# Altium integrated library microbuilder.IntLib: 530 symbols (part 1 of 7)
Pins are listed as number, name and electrical type; pins without a type are passive.

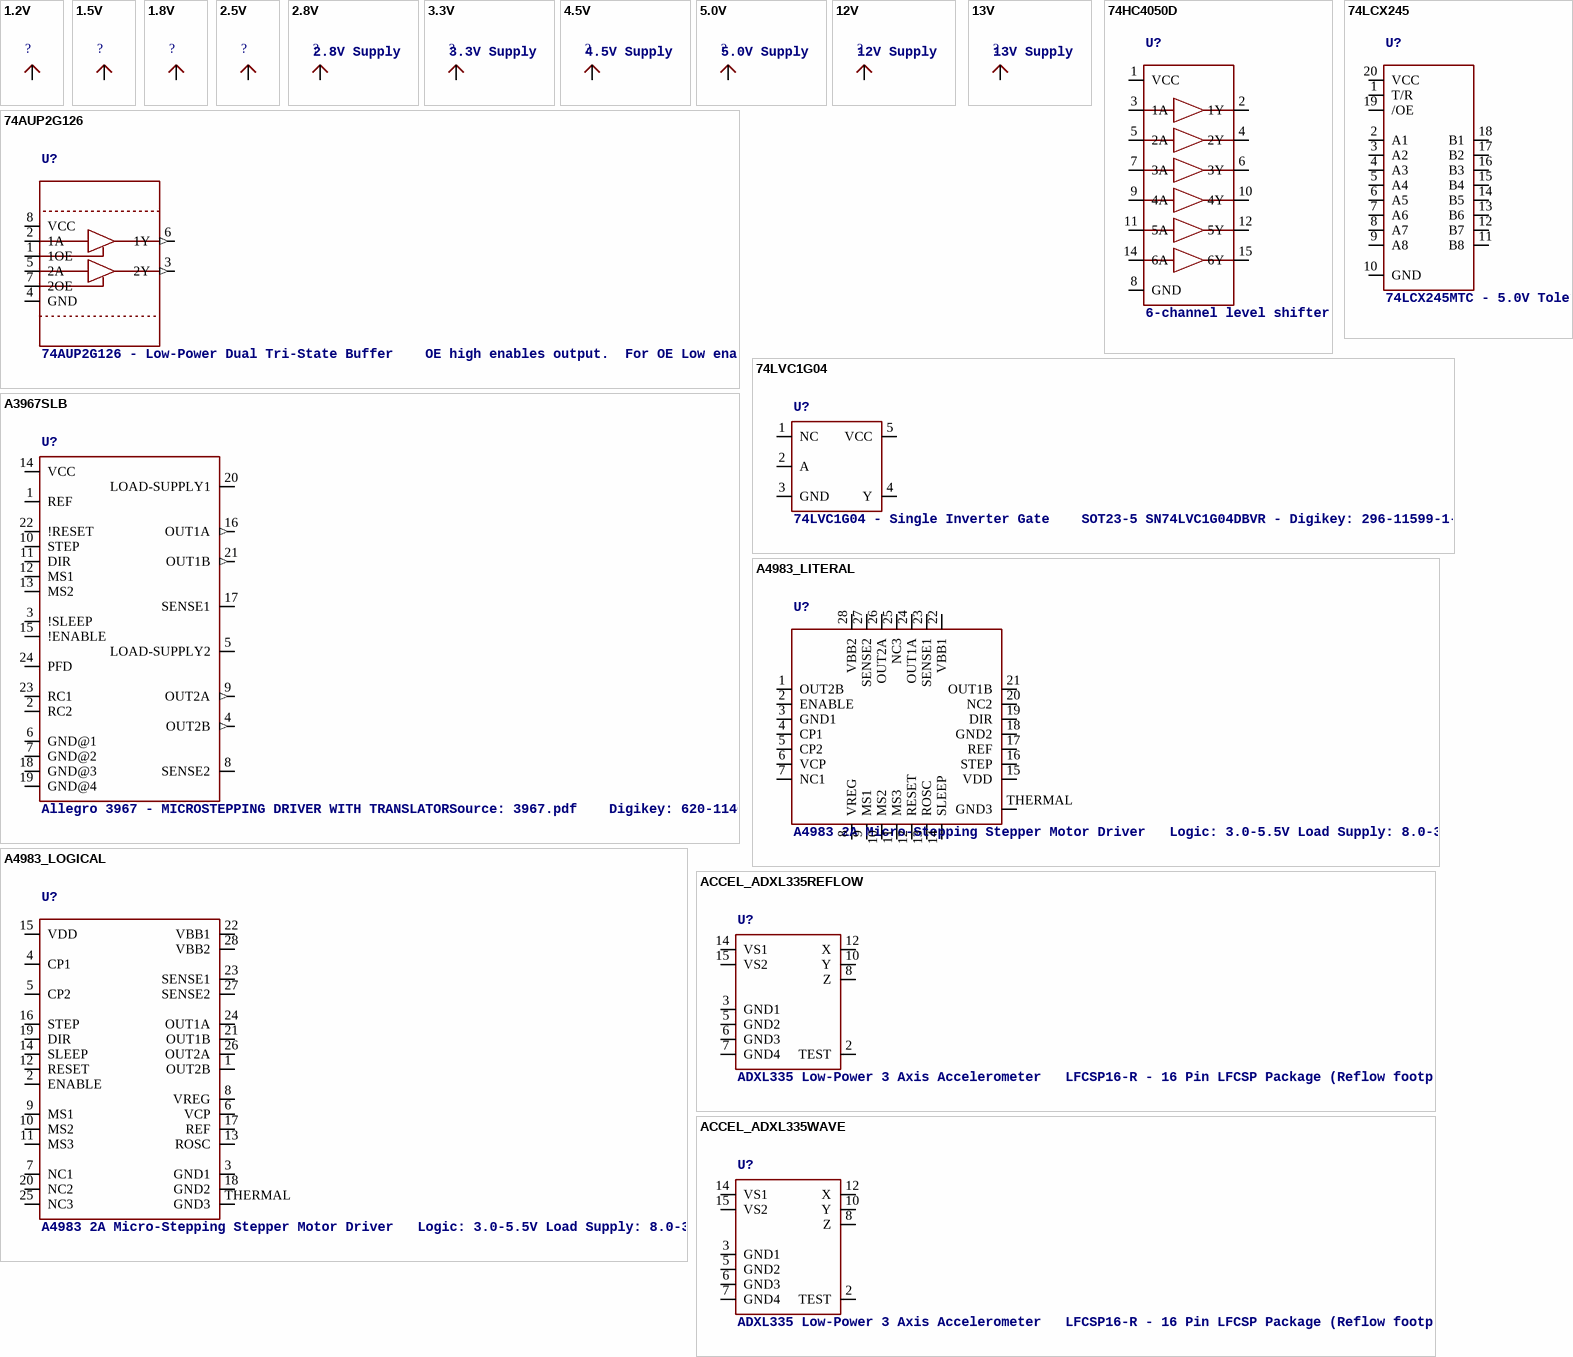
[diagram p0: symbols 1.2V to ACCEL_ADXL335WAVE]

## 1.2V
designator ?
pins: ?1 1.2V (oe)

## 1.5V
designator ?
pins: ?1 1.5V (oe)

## 1.8V
designator ?
pins: ?1 1.8V (oe)

## 2.5V
designator ?
pins: ?1 2.5V (oe)

## 2.8V
designator ?, comment 2.8V Supply
pins: ?1 2.8V (oe)

## 3.3V
designator ?, comment 3.3V Supply
pins: ?1 3.3V (oe)

## 4.5V
designator ?, comment 4.5V Supply
pins: ?1 4.5V (oe)

## 5.0V
designator ?, comment 5.0V Supply
pins: ?1 5.0V (oe)

## 12V
designator ?, comment 12V Supply
pins: ?1 12V (oe)

## 13V
designator ?, comment 13V Supply
pins: ?1 13V (oe)

## 74AUP2G126
designator U?, comment 74AUP2G126 - Low-Power Dual Tri-State Buffer    OE high enables output.  For OE Low enabled output use 74AUP2G125.    VCC: 0.8-3.6V  Temp: -40°C - 125°C       Package Variant: 8-VSSOP (SOT765-1)   Manuf. ID: 74AUP2G126DC,125   Digikey: 568-4987-1-ND   NOTE: Make sure to check the propogation delay to see if it's short enough for your timing since it's largely dependant on the line capacitance and supply voltage!
footprint VFSOP-8
pins: 1 1OE, 2 1A, 3 2Y (out), 4 GND (power), 5 2A, 6 1Y (out), 7 2OE, 8 VCC (power)

## 74HC4050D
designator U?, comment 6-channel level shifter    74HC4050D - 2V-6V Supply Digikey: 74HC4050D,653-ND  Mouser: 771-74HC4050D-T
footprint SOIC16
pins: 1 VCC, 2 1Y, 3 1A, 4 2Y, 5 2A, 6 3Y, 7 3A, 8 GND, 9 4A, 10 4Y, 11 5A, 12 5Y, 14 6A, 15 6Y

## 74LCX245
designator U?, comment 74LCX245MTC - 5.0V Tolerant Bi-Directional Buffer    Can be used to interface 5.0V logic to 2.5 or 3.3V devices Digikey: 74LCX245MTCXTR-ND  Mouser: 512-74LCX245MTCX
footprint TSSOP20
pins: 1 T/R, 2 A1, 3 A2, 4 A3, 5 A4, 6 A5, 7 A6, 8 A7, 9 A8, 10 GND, 11 B8, 12 B7, 13 B6, 14 B5, 15 B4, 16 B3, 17 B2, 18 B1, 19 /OE, 20 VCC

## 74LVC1G04
designator U?, comment 74LVC1G04 - Single Inverter Gate    SOT23-5 SN74LVC1G04DBVR - Digikey: 296-11599-1-ND
footprint SOT23-5
pins: 1 NC, 2 A, 3 GND (power), 4 Y, 5 VCC (power)

## A3967SLB
designator U?, comment Allegro 3967 - MICROSTEPPING DRIVER WITH TRANSLATORSource: 3967.pdf    Digikey: 620-1140-1-ND
footprint SOIC24WIDE
pins: 1 REF, 2 RC2, 3 !SLEEP, 4 OUT2B (out), 5 LOAD-SUPPLY2, 6 GND@1 (power), 7 GND@2 (power), 8 SENSE2, 9 OUT2A (out), 10 STEP, 11 DIR, 12 MS1, 13 MS2, 14 VCC (power), 15 !ENABLE, 16 OUT1A (out), 17 SENSE1, 18 GND@3 (power), 19 GND@4 (power), 20 LOAD-SUPPLY1, 21 OUT1B (out), 22 !RESET, 23 RC1, 24 PFD

## A4983_LITERAL
designator U?, comment A4983 2A Micro-Stepping Stepper Motor Driver   Logic: 3.0-5.5V Load Supply: 8.0-35V
footprint QFN28_5MM
pins: 1 OUT2B, 2 ENABLE, 3 GND1 (power), 4 CP1, 5 CP2, 6 VCP, 7 NC1, 8 VREG, 9 MS1, 10 MS2, 11 MS3, 12 RESET, 13 ROSC, 14 SLEEP, 15 VDD (power), 16 STEP, 17 REF, 18 GND2 (power), 19 DIR, 20 NC2, 21 OUT1B, 22 VBB1, 23 SENSE1, 24 OUT1A, 25 NC3, 26 OUT2A, 27 SENSE2, 28 VBB2, THERMAL GND3 (power)

## A4983_LOGICAL
designator U?, comment A4983 2A Micro-Stepping Stepper Motor Driver   Logic: 3.0-5.5V Load Supply: 8.0-35V
footprint QFN28_5MM
pins: 1 OUT2B, 2 ENABLE, 3 GND1 (power), 4 CP1, 5 CP2, 6 VCP, 7 NC1, 8 VREG, 9 MS1, 10 MS2, 11 MS3, 12 RESET, 13 ROSC, 14 SLEEP, 15 VDD (power), 16 STEP, 17 REF, 18 GND2 (power), 19 DIR, 20 NC2, 21 OUT1B, 22 VBB1, 23 SENSE1, 24 OUT1A, 25 NC3, 26 OUT2A, 27 SENSE2, 28 VBB2, THERMAL GND3 (power)

## ACCEL_ADXL335REFLOW
designator U?, comment ADXL335 Low-Power 3 Axis Accelerometer   LFCSP16-R - 16 Pin LFCSP Package (Reflow footprint) LFSCP16-W - 16 Pin LFCSP Package (Wave footprint with extended pads for hand soldering)    Digikey: ADXL335BCPZ-RL7CT-ND
footprint LFCSP16-R
pins: 2 TEST, 3 GND1, 5 GND2, 6 GND3, 7 GND4, 8 Z, 10 Y, 12 X, 14 VS1, 15 VS2

## ACCEL_ADXL335WAVE
designator U?, comment ADXL335 Low-Power 3 Axis Accelerometer   LFCSP16-R - 16 Pin LFCSP Package (Reflow footprint) LFSCP16-W - 16 Pin LFCSP Package (Wave footprint with extended pads for hand soldering)    Digikey: ADXL335BCPZ-RL7CT-ND
footprint LFCSP16-W
pins: 2 TEST, 3 GND1, 5 GND2, 6 GND3, 7 GND4, 8 Z, 10 Y, 12 X, 14 VS1, 15 VS2

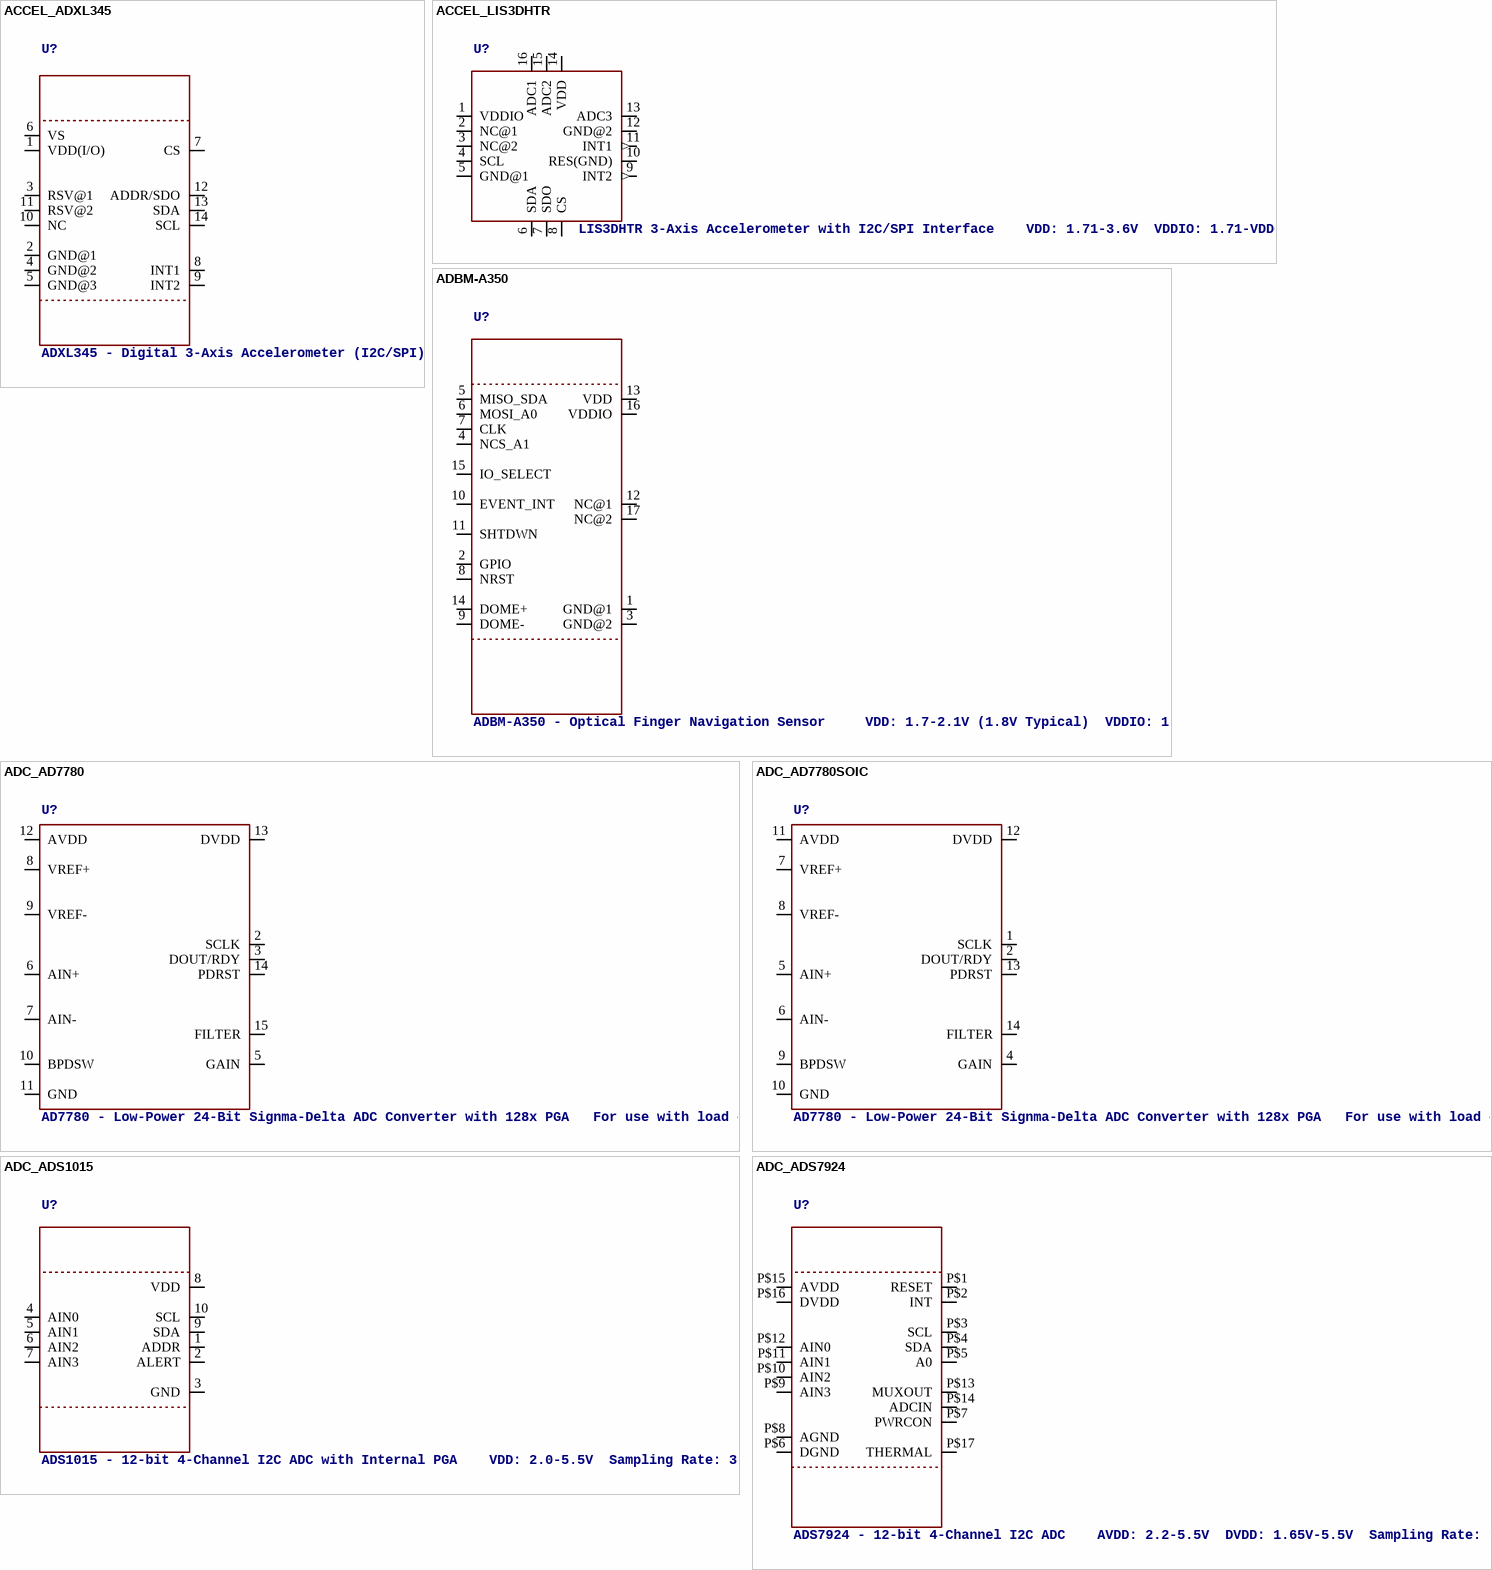
[diagram p1: symbols ACCEL_ADXL345 to ADC_ADS7924]

## ACCEL_ADXL345
designator U?, comment ADXL345 - Digital 3-Axis Accelerometer (I2C/SPI)
footprint LGA14
pins: 1 VDD(I/O), 2 GND@1, 3 RSV@1, 4 GND@2, 5 GND@3, 6 VS, 7 CS, 8 INT1, 9 INT2, 10 NC, 11 RSV@2, 12 ADDR/SDO, 13 SDA, 14 SCL

## ACCEL_LIS3DHTR
designator U?, comment LIS3DHTR 3-Axis Accelerometer with I2C/SPI Interface    VDD: 1.71-3.6V  VDDIO: 1.71-VDD+0.1V  Scale: +/-2g, 4g, 8g, 16g with 16--bit data output  Temp:: -40°C - 85°C       Mouser: 511-LIS3DHTR Digikey: 497-10613-1-ND
footprint LGA16_3X3MM
pins: 1 VDDIO (oe), 2 NC@1, 3 NC@2, 4 SCL, 5 GND@1 (oe), 6 SDA, 7 SDO, 8 CS, 9 INT2 (out), 10 RES(GND), 11 INT1 (out), 12 GND@2 (oe), 13 ADC3, 14 VDD (oe), 15 ADC2, 16 ADC1

## ADBM-A350
designator U?, comment ADBM-A350 - Optical Finger Navigation Sensor     VDD: 1.7-2.1V (1.8V Typical)  VDDIO: 1.65-3.6V (1.8V or 2.8V Typical)  Operating Temp: -20-70°C       FPC Connector: Hirose FH26-17S-0.3SHW(05)
footprint ADBM-A350
pins: 1 GND@1 (power), 2 GPIO, 3 GND@2 (power), 4 NCS_A1, 5 MISO_SDA, 6 MOSI_A0, 7 CLK, 8 NRST, 9 DOME-, 10 EVENT_INT, 11 SHTDWN, 12 NC@1, 13 VDD (power), 14 DOME+, 15 IO_SELECT, 16 VDDIO (power), 17 NC@2

## ADC_AD7780
designator U?, comment AD7780 - Low-Power 24-Bit Signma-Delta ADC Converter with 128x PGA   For use with load cells   TSSOP16 = 5.0x4.4mm package - Digikey: AD7780BRUZ-ND   SOIC14 = 8.70x3.9mm package - Digikey: AD7780BRZ-ND
footprint TSSOP16
pins: 2 SCLK, 3 DOUT/RDY, 5 GAIN, 6 AIN+, 7 AIN-, 8 VREF+, 9 VREF-, 10 BPDSW, 11 GND, 12 AVDD, 13 DVDD, 14 PDRST, 15 FILTER

## ADC_AD7780SOIC
designator U?, comment AD7780 - Low-Power 24-Bit Signma-Delta ADC Converter with 128x PGA   For use with load cells   TSSOP16 = 5.0x4.4mm package - Digikey: AD7780BRUZ-ND   SOIC14 = 8.70x3.9mm package - Digikey: AD7780BRZ-ND
footprint SOIC14
pins: 1 SCLK, 2 DOUT/RDY, 4 GAIN, 5 AIN+, 6 AIN-, 7 VREF+, 8 VREF-, 9 BPDSW, 10 GND, 11 AVDD, 12 DVDD, 13 PDRST, 14 FILTER

## ADC_ADS1015
designator U?, comment ADS1015 - 12-bit 4-Channel I2C ADC with Internal PGA    VDD: 2.0-5.5V  Sampling Rate: 3.3ksps  Gain Settings: 2/3, 1, 2, 4, 8, 16  I2C Address: ADDR low = 1001000x, ADDR high = 1001001x       Internal Comparator   The ADS1015 includes an internal comparator that can be set to output a high-level on ALERT when the conversion results exceeeds a pre-defined upper level, and will deassert itself when the level falls below a pre-defined lower threshold level. It can also be set to windowed mode where the ALERT pin will be asserted if the data exceeds the upper threshold or falls below the lower threshold.
footprint MSOP10
pins: 1 ADDR, 2 ALERT, 3 GND, 4 AIN0, 5 AIN1, 6 AIN2, 7 AIN3, 8 VDD, 9 SDA, 10 SCL

## ADC_ADS7924
designator U?, comment ADS7924 - 12-bit 4-Channel I2C ADC    AVDD: 2.2-5.5V  DVDD: 1.65V-5.5V  Sampling Rate: 100ksps  I2C Address: ADDR low = 1001000x, ADDR DVDD = 1001001x       Digital Threshold Comparators   The ADS794 is a relatively low-power device and can be useful in certain low-power scenarios since it can be configured to regularly check the voltage on the analog input pins, and throw an interrupt or pull an MCU out of reset when a specific condition is met.  Each of the four inputs has it's own programmable threshold level.  It could be used to monitor the input level of solar or other ambient energy sources, and when the level is sufficiently high, wakeup the MCU to perform read some sensor data, etc., or wait until a supercap is charged to a sufficiently high level before waking the MCU.
footprint WQFN16
pins: P$1 RESET, P$2 INT, P$3 SCL, P$4 SDA, P$5 A0, P$6 DGND, P$7 PWRCON, P$8 AGND, P$9 AIN3, P$10 AIN2, P$11 AIN1, P$12 AIN0, P$13 MUXOUT, P$14 ADCIN, P$15 AVDD, P$16 DVDD, P$17 THERMAL

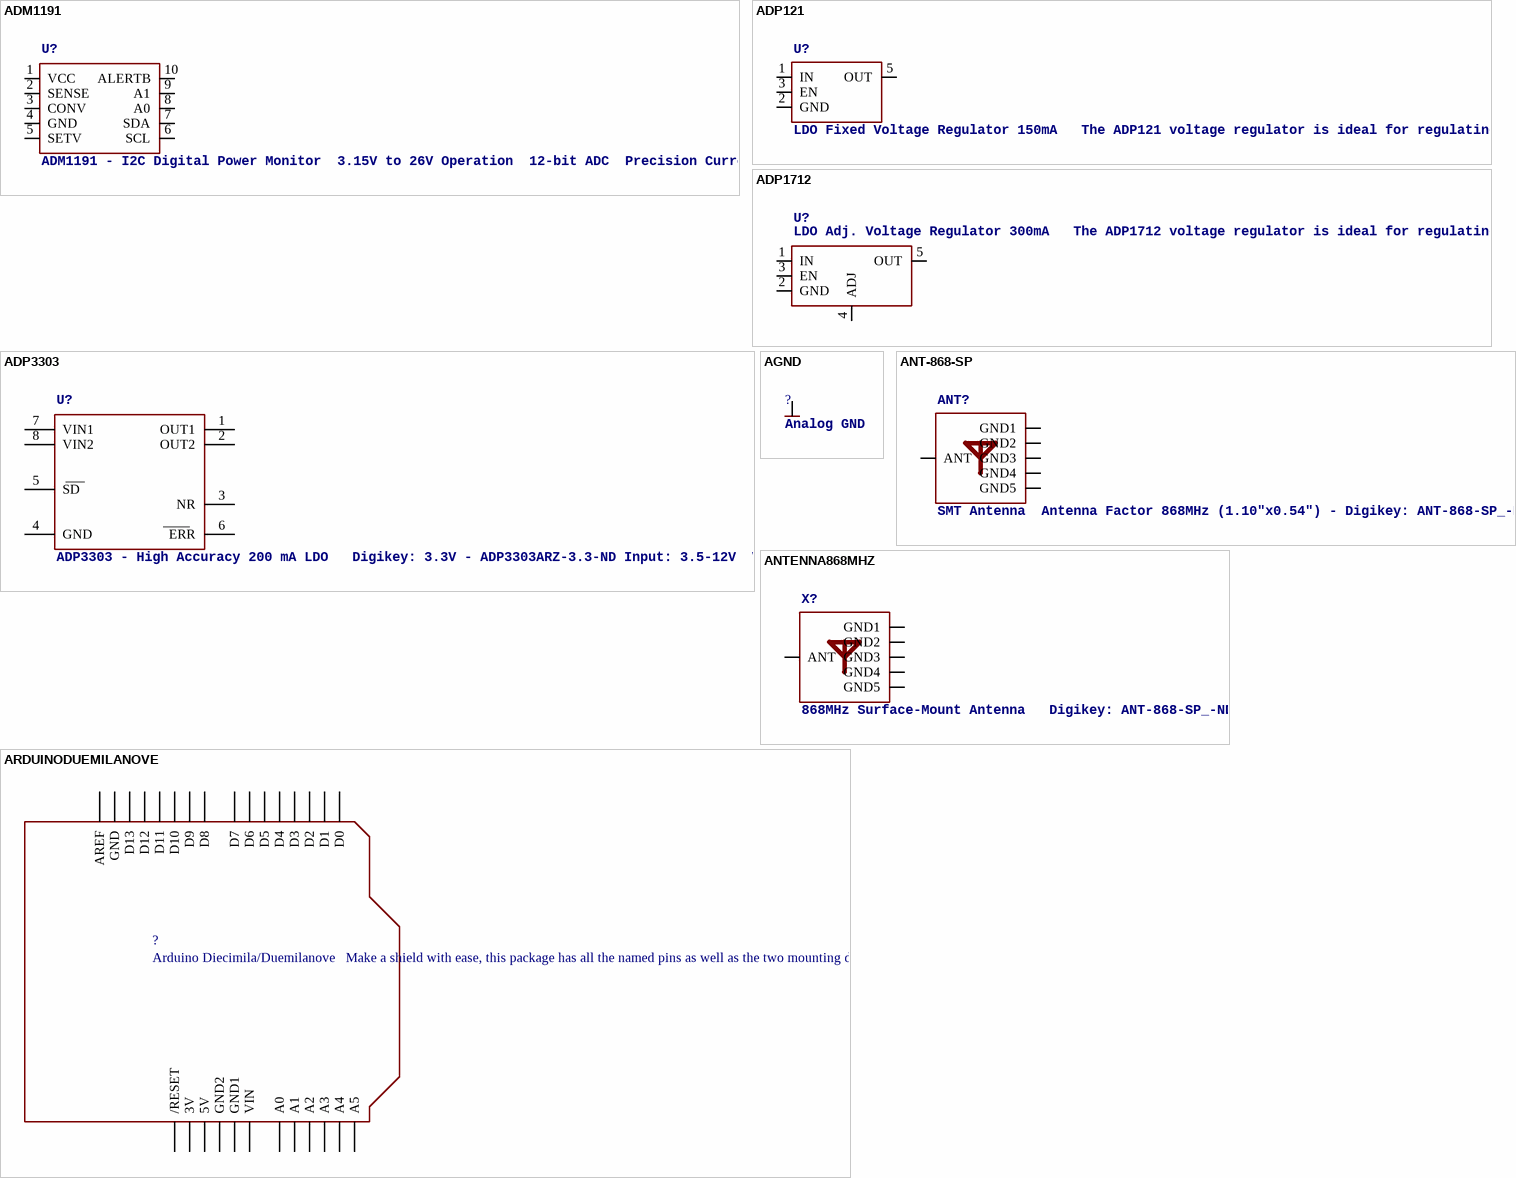
[diagram p2: symbols ADM1191 to ARDUINODUEMILANOVE]

## ADM1191
designator U?, comment ADM1191 - I2C Digital Power Monitor  3.15V to 26V Operation  12-bit ADC  Precision Current Sense Amplifier  Precision Voltage Input    Digikey: ADM1191-2ARMZ-R7TR-ND
footprint MSOP10
pins: 1 VCC, 2 SENSE, 3 CONV, 4 GND, 5 SETV, 6 SCL, 7 SDA, 8 A0, 9 A1, 10 ALERTB

## ADP121
designator U?, comment LDO Fixed Voltage Regulator 150mA   The ADP121 voltage regulator is ideal for regulating battery or solar power due to it's very low foreward voltage drop (maximum 90mV at 150mA).Forward Voltage Dropout: 90mV at 150mA Input Voltage Range: 2.3V-5.5V Output Voltage Range: 1.2V-3.3V (depending on model)  Digikey: 3.3V - ADP121-AUJZ33R7CT-ND  Digikey: 3.0V - ADP121-AUJZ30R7CT-ND
footprint SOT23-5
pins: 1 IN, 2 GND, 3 EN, 5 OUT

## ADP1712
designator U?, comment LDO Adj. Voltage Regulator 300mA   The ADP1712 voltage regulator is ideal for regulating battery or solar power due to it's very low foreward voltage drop (maximum 170mV at 300mA).Forward Voltage Dropout: 170mV at 300mA Input Voltage Range: 2.5V-5.5V Output Voltage Range: 0.8V-5.0V  1.2V - Digikey: ADP1712AUJZ-1.2-R7CT-ND  1.8V - Digikey: ADP1712AUJZ-1.8-R7CT-ND  3.3V - Digikey: ADP1712AUJZ-3.3-R7CT-ND
footprint SOT23-5
pins: 1 IN, 2 GND, 3 EN, 4 ADJ, 5 OUT

## ADP3303
designator U?, comment ADP3303 - High Accuracy 200 mA LDO   Digikey: 3.3V - ADP3303ARZ-3.3-ND Input: 3.5-12V  Vf: 180mV @ 200mA  Temp: -20°C-85°C       Digikey: 5.0V - ADP3303ARZ-5-ND
footprint SOIC8_150MIL
pins: 1 OUT1, 2 OUT2, 3 NR, 4 GND, 5 SD, 6 ERR, 7 VIN1, 8 VIN2

## AGND
designator ?, comment Analog GND
pins: ?1 AGND (oe)

## ANT-868-SP
designator ANT?, comment SMT Antenna  Antenna Factor 868MHz (1.10"x0.54") - Digikey: ANT-868-SP_-ND
footprint ANT_868MHZ_SPLATCH
pins: GND1 (power), GND2 (power), GND3 (power), GND4 (power), GND5 (power), MICROSTRIP ANT

## ANTENNA868MHZ
designator X?, comment 868MHz Surface-Mount Antenna   Digikey: ANT-868-SP_-ND
footprint 869MHZANTENNA
pins: P$1 ANT, P$2 GND1 (power), P$3 GND2 (power), P$4 GND3 (power), P$5 GND4 (power), P$6 GND5 (power)

## ARDUINODUEMILANOVE
designator ?, comment Arduino Diecimila/Duemilanove   Make a shield with ease, this package has all the named pins as well as the two mounting drill holes and an outline of the USB and DC power connector. The outline is on the DIMENSION layer, so if your board house uses it they will cut the outline to match.    http://www.ladyada.net/library/pcb/eaglelibrary.html
footprint ARDUINO
pins: 3V (power), 5V (power), A0, A1, A2, A3, A4, A5, AREF, D0, D1, D2, D3, D4, D5, D6, D7, D8, D9, D10, D11, D12, D13, GND (power), GND1 (power), GND2 (power), RESET /RESET, VIN (power)

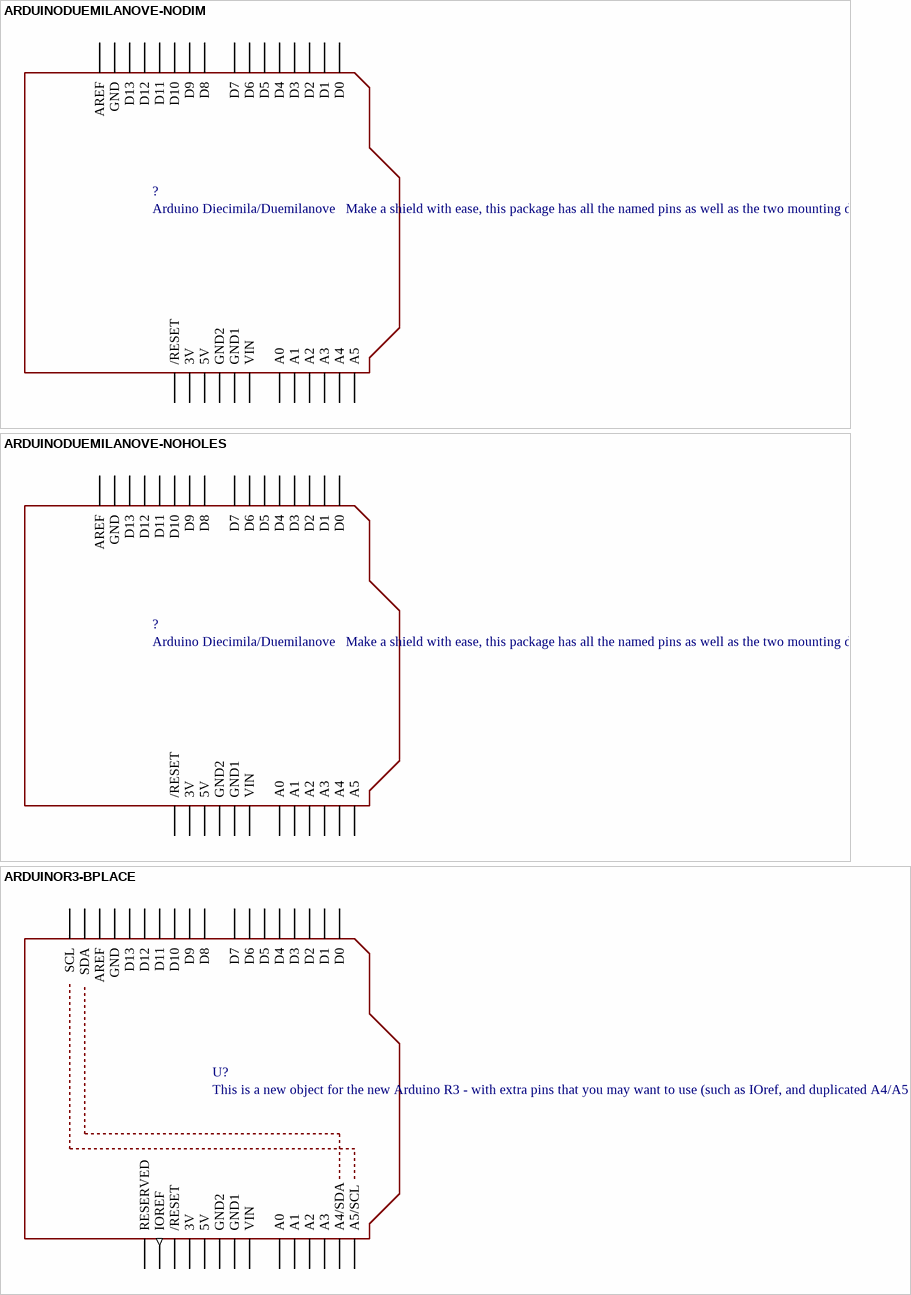
[diagram p3: symbols ARDUINODUEMILANOVE-NODIM to ARDUINOR3-BPLACE]

## ARDUINODUEMILANOVE-NODIM
designator ?, comment Arduino Diecimila/Duemilanove   Make a shield with ease, this package has all the named pins as well as the two mounting drill holes and an outline of the USB and DC power connector. The outline is on the DIMENSION layer, so if your board house uses it they will cut the outline to match.    http://www.ladyada.net/library/pcb/eaglelibrary.html
footprint ARDUINO-NODIM
pins: 3V (power), 5V (power), A0, A1, A2, A3, A4, A5, AREF, D0, D1, D2, D3, D4, D5, D6, D7, D8, D9, D10, D11, D12, D13, GND (power), GND1 (power), GND2 (power), RESET /RESET, VIN (power)

## ARDUINODUEMILANOVE-NOHOLES
designator ?, comment Arduino Diecimila/Duemilanove   Make a shield with ease, this package has all the named pins as well as the two mounting drill holes and an outline of the USB and DC power connector. The outline is on the DIMENSION layer, so if your board house uses it they will cut the outline to match.    http://www.ladyada.net/library/pcb/eaglelibrary.html
footprint ARDUINO-NOHOLE
pins: 3V (power), 5V (power), A0, A1, A2, A3, A4, A5, AREF, D0, D1, D2, D3, D4, D5, D6, D7, D8, D9, D10, D11, D12, D13, GND (power), GND1 (power), GND2 (power), RESET /RESET, VIN (power)

## ARDUINOR3-BPLACE
designator U?, comment This is a new object for the new Arduino R3 - with extra pins that you may want to use (such as IOref, and duplicated A4/A5
footprint ARDUINOR3-BPLACE
pins: 3V (power), 5V (power), A0, A1, A2, A3, A4 A4/SDA, A5 A5/SCL, AREF, D0, D1, D2, D3, D4, D5, D6, D7, D8, D9, D10, D11, D12, D13, GND (power), GND1 (power), GND2 (power), IOREF (out), RESERVED, RESET /RESET, SCL, SDA, VIN (power)

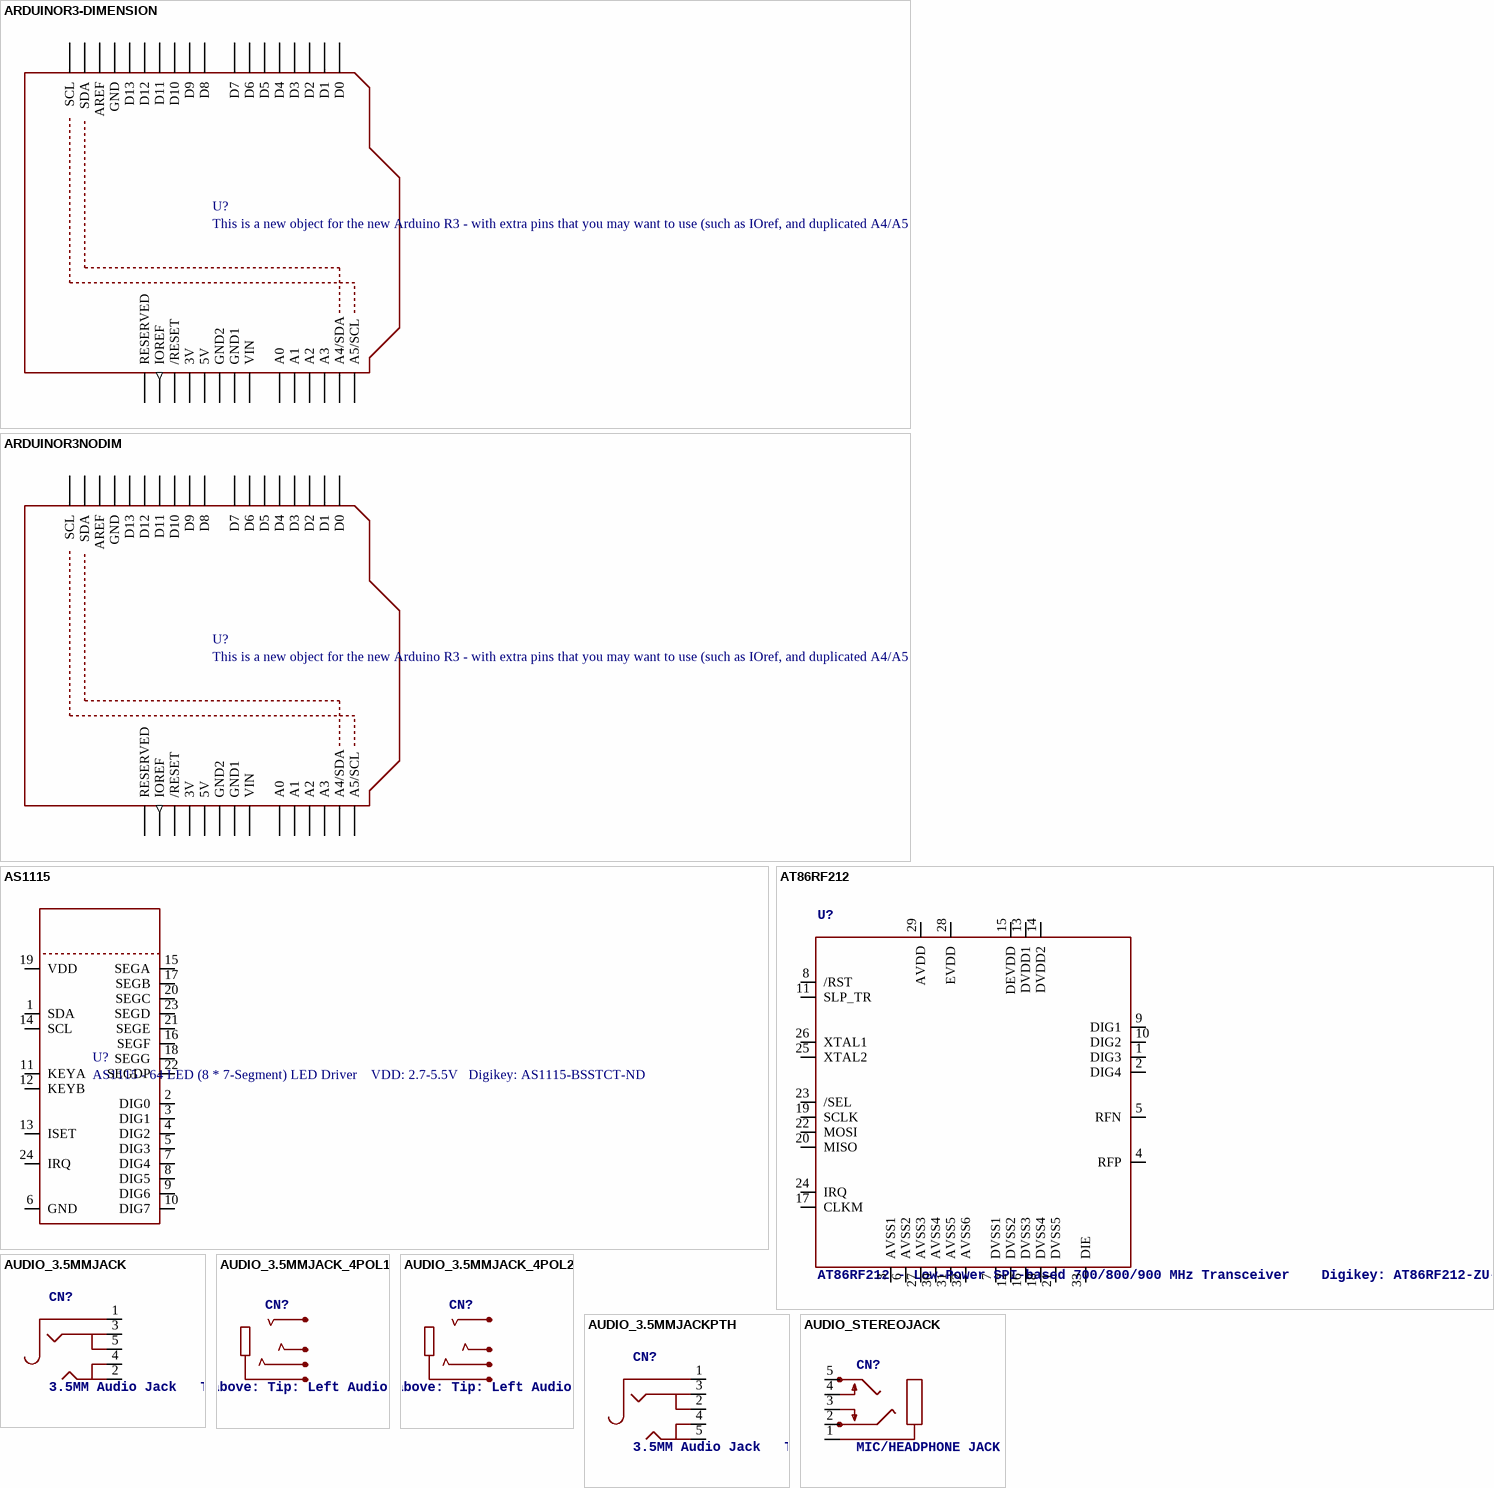
[diagram p4: symbols ARDUINOR3-DIMENSION to AUDIO_STEREOJACK]

## ARDUINOR3-DIMENSION
designator U?, comment This is a new object for the new Arduino R3 - with extra pins that you may want to use (such as IOref, and duplicated A4/A5
footprint ARDUINOR3
pins: 3V (power), 5V (power), A0, A1, A2, A3, A4 A4/SDA, A5 A5/SCL, AREF, D0, D1, D2, D3, D4, D5, D6, D7, D8, D9, D10, D11, D12, D13, GND (power), GND1 (power), GND2 (power), IOREF (out), RESERVED, RESET /RESET, SCL, SDA, VIN (power)

## ARDUINOR3NODIM
designator U?, comment This is a new object for the new Arduino R3 - with extra pins that you may want to use (such as IOref, and duplicated A4/A5
footprint ARDUINOR3-NODIM
pins: 3V (power), 5V (power), A0, A1, A2, A3, A4 A4/SDA, A5 A5/SCL, AREF, D0, D1, D2, D3, D4, D5, D6, D7, D8, D9, D10, D11, D12, D13, GND (power), GND1 (power), GND2 (power), IOREF (out), RESERVED, RESET /RESET, SCL, SDA, VIN (power)

## AS1115
designator U?, comment AS1115 - 64 LED (8 * 7-Segment) LED Driver    VDD: 2.7-5.5V   Digikey: AS1115-BSSTCT-ND
footprint QSOP24_0.635MM
pins: 1 SDA, 2 DIG0, 3 DIG1, 4 DIG2, 5 DIG3, 6 GND, 7 DIG4, 8 DIG5, 9 DIG6, 10 DIG7, 11 KEYA, 12 KEYB, 13 ISET, 14 SCL, 15 SEGA, 16 SEGF, 17 SEGB, 18 SEGG, 19 VDD, 20 SEGC, 21 SEGE, 22 SEGDP, 23 SEGD, 24 IRQ

## AT86RF212
designator U?, comment AT86RF212 - Low-Power SPI-based 700/800/900 MHz Transceiver    Digikey: AT86RF212-ZU-ND
PARTNO: AT86RF212-ZU
footprint 32QN2
pins: 1 DIG3, 2 DIG4, 3 AVSS1, 4 RFP, 5 RFN, 6 AVSS2, 7 DVSS1, 8 /RST, 9 DIG1, 10 DIG2, 11 SLP_TR, 12 DVSS2, 13 DVDD1, 14 DVDD2, 15 DEVDD, 16 DVSS3, 17 CLKM, 18 DVSS4, 19 SCLK, 20 MISO, 21 DVSS5, 22 MOSI, 23 /SEL, 24 IRQ, 25 XTAL2, 26 XTAL1, 27 AVSS3, 28 EVDD, 29 AVDD, 30 AVSS4, 31 AVSS5, 32 AVSS6, 33 DIE

## AUDIO_3.5MMJACK
designator CN?, comment 3.5MM Audio Jack   These are normally connected as follows, from left-to right on the schematic symbol above: Tip: Left Audio  Inner Ring: Right Audio  Shell: Common/GND
footprint 4UCONN_19269
pins: 1 P$1, 2 P$5, 3 P$2, 4 P$4, 5 P$3

## AUDIO_3.5MMJACK_4POL1
designator CN?, comment Footprint courtesy Morten Hjerde (Riftlabs.com)   These are normally connected as follows (4-pin 3.5mm 'TRRS'), from left-to right on the schematic symbol above: Tip: Left Audio  Outermost Ring: Right Audio  Innermost Ring: Common/GND  Shell: Mic+
footprint 4UCONN_19621_SPARK
pins: 1-GND GND, 2-TIP TIP, 3-OUTER_SLEEVE SLEEVE_OUTER, 4-INNER_SLEEVE SLEEVE_INNER

## AUDIO_3.5MMJACK_4POL2
designator CN?, comment Footprint courtesy Morten Hjerde (Riftlabs.com)   These are normally connected as follows (4-pin 3.5mm 'TRRS'), from left-to right on the schematic symbol above: Tip: Left Audio  Outermost Ring: Right Audio  Innermost Ring: Common/GND  Shell: Mic+
footprint 4UCONN_19621
pins: 1-GND GND, 2-TIP TIP, 3-OUTER_SLEEVE SLEEVE_OUTER, 4-INNER_SLEEVE SLEEVE_INNER

## AUDIO_3.5MMJACKPTH
designator CN?, comment 3.5MM Audio Jack   These are normally connected as follows, from left-to right on the schematic symbol above: Tip: Left Audio  Inner Ring: Right Audio  Shell: Common/GND
footprint 4UCONN_05550
pins: 1 P$1, 2 P$3, 3 P$2, 4 P$4, 5 P$5

## AUDIO_STEREOJACK
designator CN?, comment MIC/HEADPHONE JACK   Stereo jack with two switches. Kycon STX3100, CUI SJ1-3555NG and/or 4UCon 05544    Digikey: CP1-3555NG-ND   Shamelessly taken from the Adafruit Eagle library (public domain) ... thanks!   These are normally connected as follows, from right-to-left on the schematic symbol above: Tip: Left Audio  Inner Ring: Right Audio  Shell: Common/GND
footprint STX3100
pins: 1, 2, 3, 4, 5

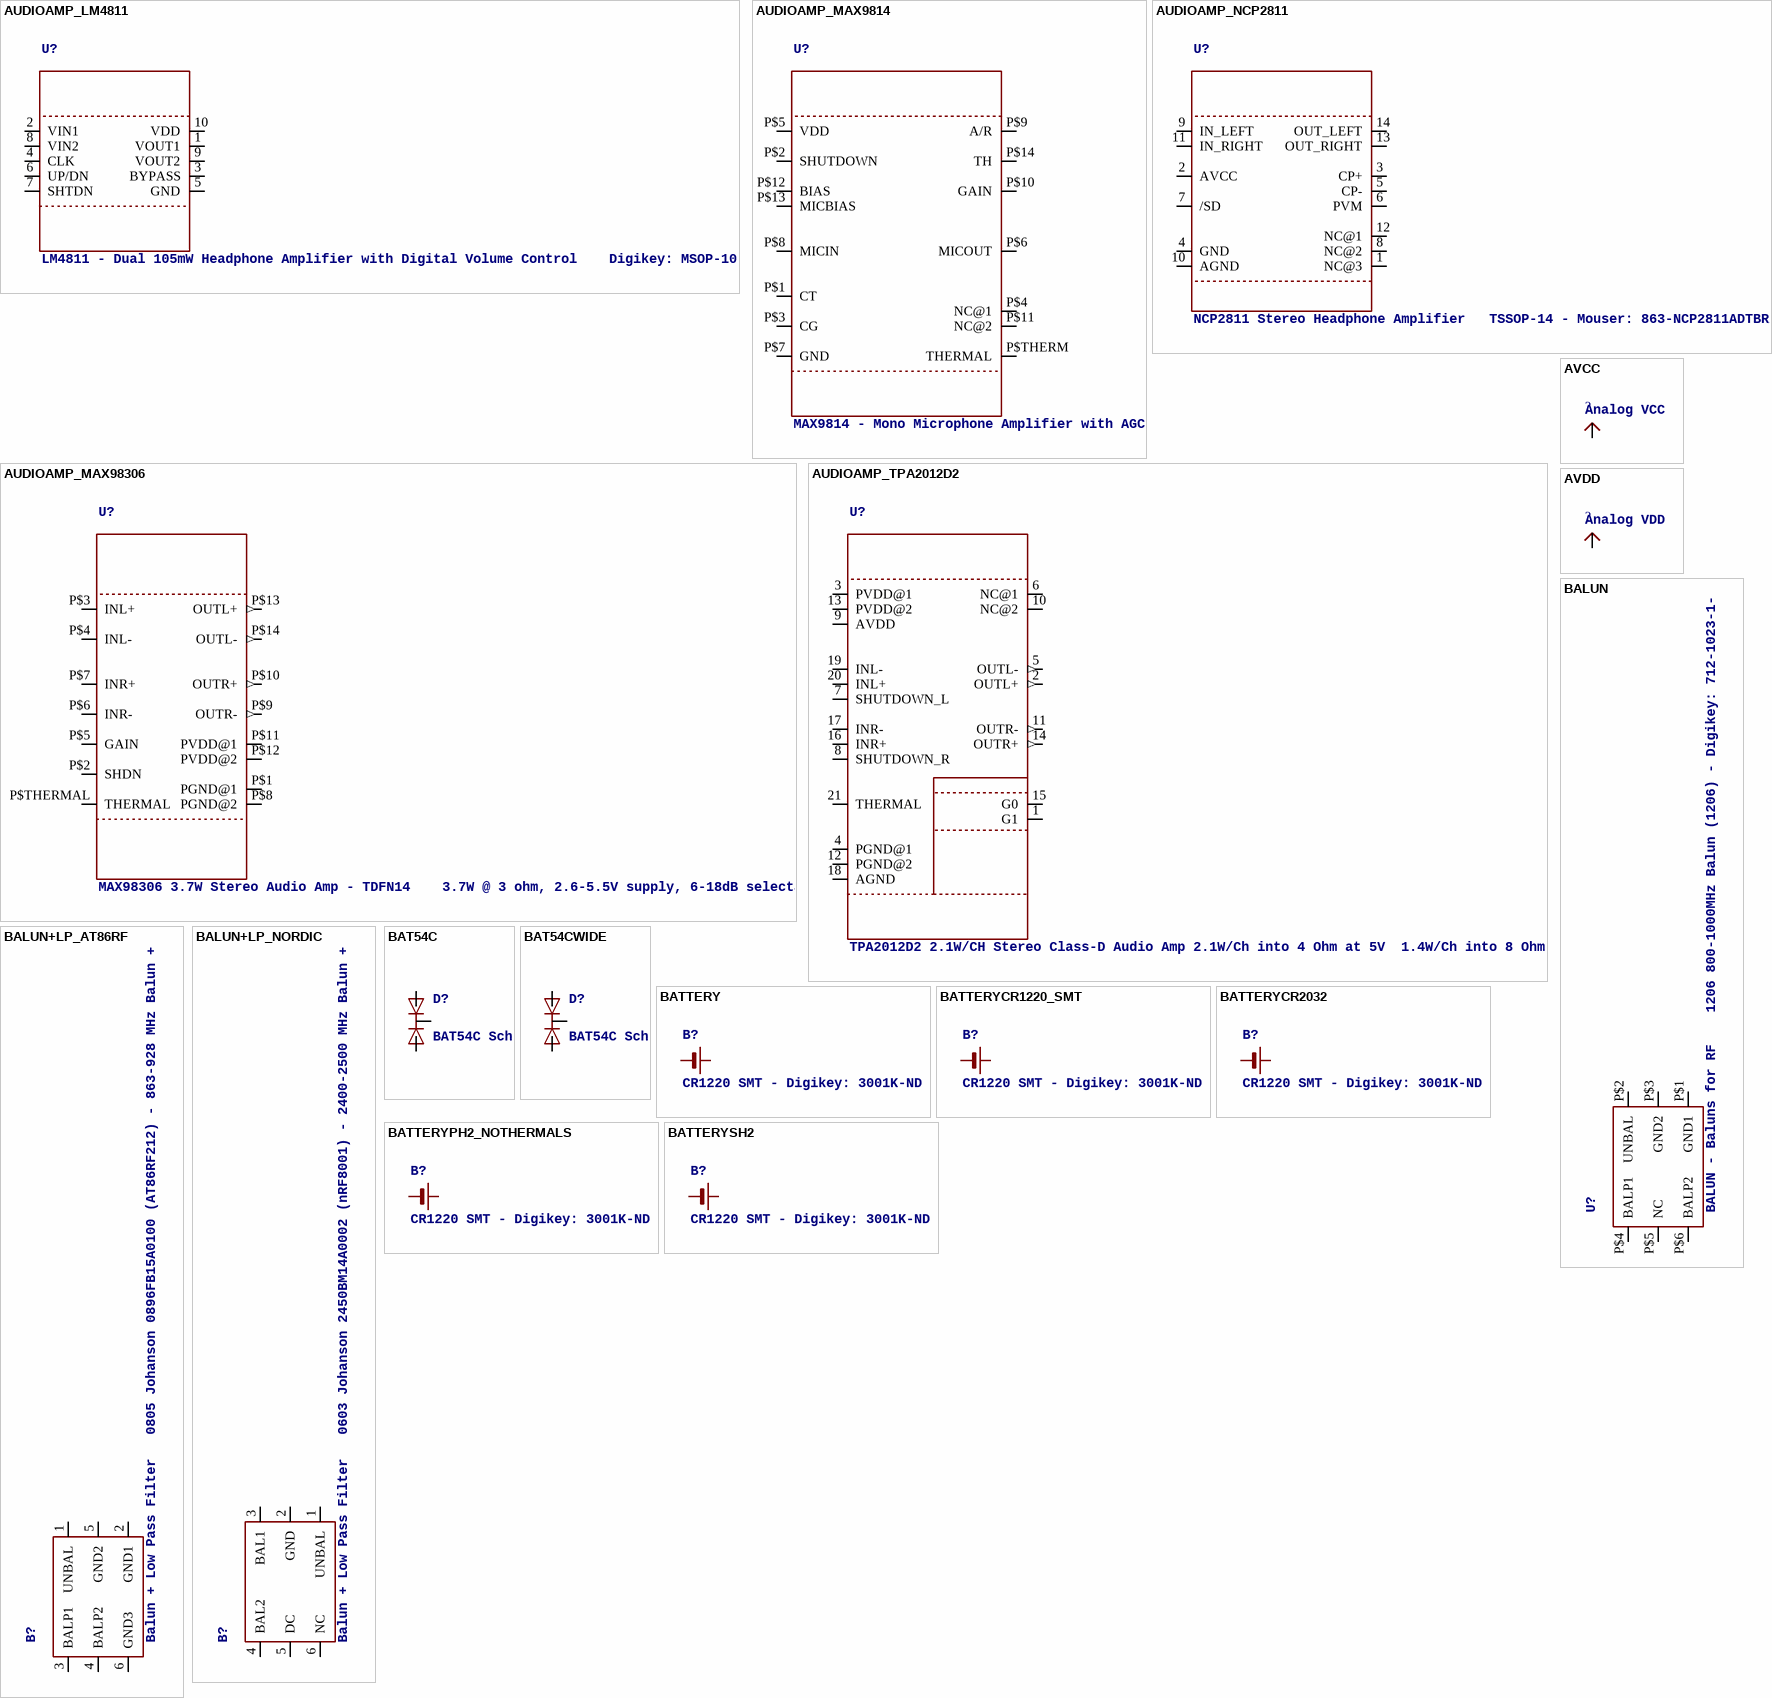
[diagram p5: symbols AUDIOAMP_LM4811 to BATTERYSH2]

## AUDIOAMP_LM4811
designator U?, comment LM4811 - Dual 105mW Headphone Amplifier with Digital Volume Control    Digikey: MSOP-10 - LM4811MMCT-ND
footprint MSOP10
pins: 1 VOUT1, 2 VIN1, 3 BYPASS, 4 CLK, 5 GND, 6 UP/DN, 7 SHTDN, 8 VIN2, 9 VOUT2, 10 VDD

## AUDIOAMP_MAX9814
designator U?, comment MAX9814 - Mono Microphone Amplifier with AGC
footprint WFDFN-14
pins: P$1 CT, P$2 SHUTDOWN, P$3 CG, P$4 NC@1, P$5 VDD, P$6 MICOUT, P$7 GND, P$8 MICIN, P$9 A/R, P$10 GAIN, P$11 NC@2, P$12 BIAS, P$13 MICBIAS, P$14 TH, P$THERM THERMAL

## AUDIOAMP_MAX98306
designator U?, comment MAX98306 3.7W Stereo Audio Amp - TDFN14    3.7W @ 3 ohm, 2.6-5.5V supply, 6-18dB selectable gain
footprint TDFN14_3X3MM
pins: P$1 PGND@1 (power), P$2 SHDN, P$3 INL+, P$4 INL-, P$5 GAIN, P$6 INR-, P$7 INR+, P$8 PGND@2 (power), P$9 OUTR- (out), P$10 OUTR+ (out), P$11 PVDD@1 (power), P$12 PVDD@2 (power), P$13 OUTL+ (out), P$14 OUTL- (out), P$THERMAL THERMAL (power)

## AUDIOAMP_NCP2811
designator U?, comment NCP2811 Stereo Headphone Amplifier   TSSOP-14 - Mouser: 863-NCP2811ADTBR2G
footprint TSSOP14
pins: 1 NC@3, 2 AVCC, 3 CP+, 4 GND, 5 CP-, 6 PVM, 7 /SD, 8 NC@2, 9 IN_LEFT, 10 AGND, 11 IN_RIGHT, 12 NC@1, 13 OUT_RIGHT, 14 OUT_LEFT

## AUDIOAMP_TPA2012D2
designator U?, comment TPA2012D2 2.1W/CH Stereo Class-D Audio Amp 2.1W/Ch into 4 Ohm at 5V  1.4W/Ch into 8 Ohm at 5V  720mW/Ch into 8 ohm at 3.6V  Selectable Gain: 6, 12, 18 or 24 dB  Power Supply (PVDD and AVDD): 2.5-5.5V  Operating Temperature: -40 to 85°C       Digikey (QFN20): 296-17692-1-ND
footprint WQFN20
pins: 1 G1, 2 OUTL+ (out), 3 PVDD@1 (power), 4 PGND@1 (power), 5 OUTL- (out), 6 NC@1, 7 SHUTDOWN_L, 8 SHUTDOWN_R, 9 AVDD (power), 10 NC@2, 11 OUTR- (out), 12 PGND@2 (power), 13 PVDD@2 (power), 14 OUTR+ (out), 15 G0, 16 INR+, 17 INR-, 18 AGND (power), 19 INL-, 20 INL+, 21 THERMAL

## AVCC
designator ?, comment Analog VCC
pins: ?1 AVCC (oe)

## AVDD
designator ?, comment Analog VDD
pins: ?1 AVDD (oe)

## BALUN
designator U?, comment BALUN - Baluns for RF    1206 800-1000MHz Balun (1206) - Digikey: 712-1023-1-ND
footprint BALUN1206
pins: P$1 GND1, P$2 UNBAL, P$3 GND2, P$4 BALP1, P$5 NC, P$6 BALP2

## BALUN+LP_AT86RF
designator B?, comment Balun + Low Pass Filter   0805 Johanson 0896FB15A0100 (AT86RF212) - 863-928 MHz Balun + Filter - Digikey: 712-1473-1-ND  Johanson 2450FB15L0001 (AR86RF230/231) - 2400-2500 MHz Balun + Filter - Digikey: 712-1538-1-ND
footprint BALUN0805
pins: 1 UNBAL, 2 GND1, 3 BALP1, 4 BALP2, 5 GND2, 6 GND3

## BALUN+LP_NORDIC
designator B?, comment Balun + Low Pass Filter   0603 Johanson 2450BM14A0002 (nRF8001) - 2400-2500 MHz Balun + Filter
footprint BALUN0603
pins: 1 UNBAL, 2 GND (oe), 3 BAL1, 4 BAL2, 5 DC, 6 NC

## BAT54C
designator D?, comment BAT54C Schottky Diodes (Common Cathode)   Vf: 800mV, 30V 200mA Digikey: BAT54CFSCT-ND   For 300mA see BAT54CFILM: Vf: 900mV, 40V 300mA Digkey: 497-3786-2-ND
footprint SOT23-R
pins: 1 A1, 2 A2, 3 C

## BAT54CWIDE
designator D?, comment BAT54C Schottky Diodes (Common Cathode)   Vf: 800mV, 30V 200mA Digikey: BAT54CFSCT-ND   For 300mA see BAT54CFILM: Vf: 900mV, 40V 300mA Digkey: 497-3786-2-ND
footprint SOT23-WIDE
pins: 1 A1, 2 A2, 3 C

## BATTERY
designator B?, comment CR1220 SMT - Digikey: 3001K-ND
footprint JSTPH2
pins: 1 -, 2 +

## BATTERYCR1220_SMT
designator B?, comment CR1220 SMT - Digikey: 3001K-ND
footprint CR1220
pins: +$1 +, -

## BATTERYCR2032
designator B?, comment CR1220 SMT - Digikey: 3001K-ND
footprint CR2032
pins: +, -

## BATTERYPH2_NOTHERMALS
designator B?, comment CR1220 SMT - Digikey: 3001K-ND
footprint JSTPH2_NOTHERMALS
pins: 1 -, 2 +

## BATTERYSH2
designator B?, comment CR1220 SMT - Digikey: 3001K-ND
footprint JSTSH2
pins: 1 -, 2 +

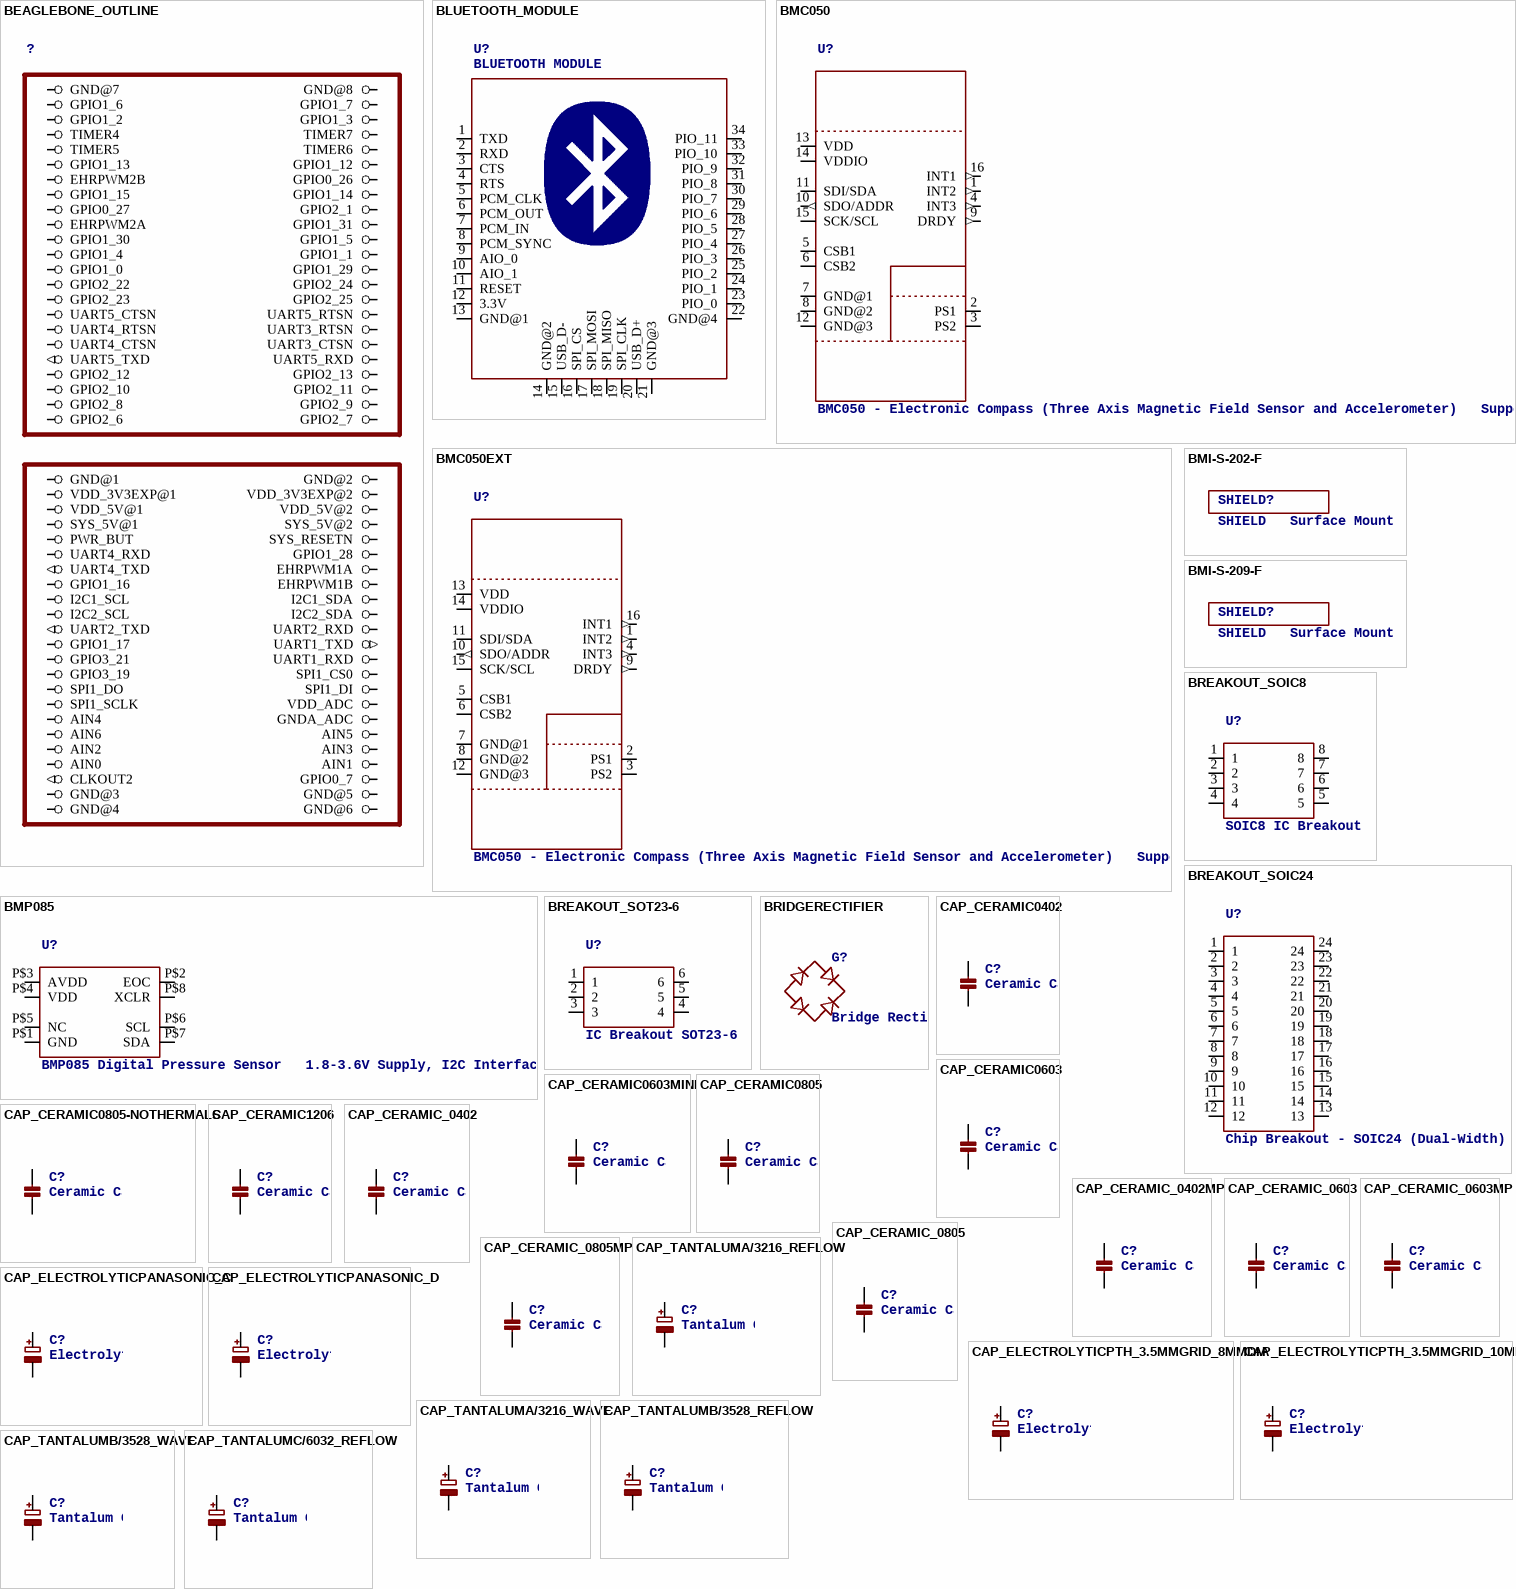
[diagram p6: symbols BEAGLEBONE_OUTLINE to CAP_TANTALUMC/6032_REFLOW]

## BEAGLEBONE_OUTLINE
designator ?
footprint BEAGLEBONE_SHIELD
pins: 1 GND@7 (power), 2 GND@8 (power), 3 GPIO1_6, 4 GPIO1_7, 5 GPIO1_2, 6 GPIO1_3, 7 TIMER4, 8 TIMER7, 9 TIMER5, 10 TIMER6, 11 GPIO1_13, 12 GPIO1_12, 13 EHRPWM2B, 14 GPIO0_26, 15 GPIO1_15, 16 GPIO1_14, 17 GPIO0_27, 18 GPIO2_1, 19 EHRPWM2A, 20 GPIO1_31, 21 GPIO1_30, 22 GPIO1_5, 23 GPIO1_4, 24 GPIO1_1, 25 GPIO1_0, 26 GPIO1_29, 27 GPIO2_22, 28 GPIO2_24, 29 GPIO2_23, 30 GPIO2_25, 31 UART5_CTSN, 32 UART5_RTSN, 33 UART4_RTSN, 34 UART3_RTSN, 35 UART4_CTSN, 36 UART3_CTSN, 37 UART5_TXD (out), 38 UART5_RXD, 39 GPIO2_12, 40 GPIO2_13, 41 GPIO2_10, 42 GPIO2_11, 43 GPIO2_8, 44 GPIO2_9, 45 GPIO2_6, 46 GPIO2_7, 47 GND@1 (power), 48 GND@2 (power), 49 VDD_3V3EXP@1 (power), 50 VDD_3V3EXP@2 (power), 51 VDD_5V@1 (power), 52 VDD_5V@2 (power), 53 SYS_5V@1 (power), 54 SYS_5V@2 (power), 55 PWR_BUT, 56 SYS_RESETN, 57 UART4_RXD, 58 GPIO1_28, 59 UART4_TXD (out), 60 EHRPWM1A, 61 GPIO1_16, 62 EHRPWM1B, 63 I2C1_SCL, 64 I2C1_SDA, 65 I2C2_SCL, 66 I2C2_SDA, 67 UART2_TXD (out), 68 UART2_RXD, 69 GPIO1_17, 70 UART1_TXD (out), 71 GPIO3_21, 72 UART1_RXD, 73 GPIO3_19, 74 SPI1_CS0, 75 SPI1_DO, 76 SPI1_DI, 77 SPI1_SCLK, 78 VDD_ADC (power), 79 AIN4, 80 GNDA_ADC (power), 81 AIN6, 82 AIN5, 83 AIN2, 84 AIN3, 85 AIN0, 86 AIN1, 87 CLKOUT2 (out), 88 GPIO0_7, 89 GND@3 (power), 90 GND@5 (power), 91 GND@4 (power), 92 GND@6 (power)

## BLUETOOTH_MODULE
designator U?, comment BLUETOOTH MODULE
footprint BLUETOOTH_MODULE
pins: 1 TXD, 2 RXD, 3 CTS, 4 RTS, 5 PCM_CLK, 6 PCM_OUT, 7 PCM_IN, 8 PCM_SYNC, 9 AIO_0, 10 AIO_1, 11 RESET, 12 3.3V (power), 13 GND@1 (power), 14 GND@2 (power), 15 USB_D-, 16 SPI_CS, 17 SPI_MOSI, 18 SPI_MISO, 19 SPI_CLK, 20 USB_D+, 21 GND@3 (power), 22 GND@4 (power), 23 PIO_0, 24 PIO_1, 25 PIO_2, 26 PIO_3, 27 PIO_4, 28 PIO_5, 29 PIO_6, 30 PIO_7, 31 PIO_8, 32 PIO_9, 33 PIO_10, 34 PIO_11

## BMC050
designator U?, comment BMC050 - Electronic Compass (Three Axis Magnetic Field Sensor and Accelerometer)   Support SPI and I2C interfaces    Acceleration Range: +/-2g,+/-4g, +/-8g, +/-16g,
footprint BMC050
pins: 1 INT2 (out), 2 PS1, 3 PS2, 4 INT3 (out), 5 CSB1, 6 CSB2, 7 GND@1 (oe), 8 GND@2 (oe), 9 DRDY (out), 10 SDO/ADDR (out), 11 SDI/SDA, 12 GND@3 (oe), 13 VDD (oe), 14 VDDIO (oe), 15 SCK/SCL, 16 INT1 (out)

## BMC050EXT
designator U?, comment BMC050 - Electronic Compass (Three Axis Magnetic Field Sensor and Accelerometer)   Support SPI and I2C interfaces    Acceleration Range: +/-2g,+/-4g, +/-8g, +/-16g,
footprint BMC050_EXTENDED
pins: 1 INT2 (out), 2 PS1, 3 PS2, 4 INT3 (out), 5 CSB1, 6 CSB2, 7 GND@1 (oe), 8 GND@2 (oe), 9 DRDY (out), 10 SDO/ADDR (out), 11 SDI/SDA, 12 GND@3 (oe), 13 VDD (oe), 14 VDDIO (oe), 15 SCK/SCL, 16 INT1 (out)

## BMI-S-202-F
designator SHIELD?, comment SHIELD   Surface Mount
footprint BMI-S-202-F

## BMI-S-209-F
designator SHIELD?, comment SHIELD   Surface Mount
footprint BMI-S-209-F

## BMP085
designator U?, comment BMP085 Digital Pressure Sensor   1.8-3.6V Supply, I2C Interface
footprint BMP085
pins: P$1 GND, P$2 EOC, P$3 AVDD, P$4 VDD, P$5 NC, P$6 SCL, P$7 SDA, P$8 XCLR

## BREAKOUT_SOIC8
designator U?, comment SOIC8 IC Breakout
footprint BREAKOUT_SOIC8
pins: 1, 2, 3, 4, 5, 6, 7, 8

## BREAKOUT_SOIC24
designator U?, comment Chip Breakout - SOIC24 (Dual-Width)
footprint BREAKOUT_SOIC24
pins: 1, 2, 3, 4, 5, 6, 7, 8, 9, 10, 11, 12, 13, 14, 15, 16, 17, 18, 19, 20, 21, 22, 23, 24

## BREAKOUT_SOT23-6
designator U?, comment IC Breakout SOT23-6
footprint BREAKOUT_SOT23-6
pins: 1, 2, 3, 4, 5, 6

## BRIDGERECTIFIER
designator G?, comment Bridge RectifierSOIC-4:  Comchip B4S-G - 400V 800mA, Peak Vf 1.1V (Digikey: 641-1334-1-ND)
footprint SOIC-4
pins: +, -, ~1 AC1, ~2 AC2

## CAP_CERAMIC0402
designator C?, comment Ceramic Capacitors0402 - 0402 Surface Mount Capacitors  16pF 50V 5% [Digikey: 445-4899-2-ND]  18pF 50V 5% [Digikey: 490-1281-2-ND]  22pF 50V 5% [Digikey: 490-1283-2-ND]  68pF 50V 5% [Digikey: 490-1289-2-ND]  0.1uF 10V 10% [Digikey: 490-1318-2-ND]  1.0uF 6.3V 10% [Digikey: 490-1320-2-ND]    0603 - 0603 Surface Mount Capacitors  16 pF 50V 5% [Digikey: 445-5051-2-ND]  22 pF 50V [Digikey: PCC220ACVTR-ND]  33 pF 50V 5% [Digikey: 490-1415-1-ND]  56pF 50V 5% [Digikey: 490-1421-1-ND]  220pF 50V 5% [Digikey: 445-1285-1-ND]  680 pF 50V   2200 pF 50V 5% C0G [Digikey: 445-1297-1-ND]  5600 pF 100V 5% X7R [Digikey: 478-3711-1-ND]  0.1 µF 25V 10% [Digikey: PCC2277TR-ND]  0.22 µF 16V 10% X7R [Digikey: 445-1318-1-ND]  1.0 µF 25V 10% [Digikey: 445-5146-2-ND]    0603 - RF Specific  3pF 250V +/-0.1pF RF [Digikey: 712-1347-1-ND]  18 pF 250V 5%  [Digikey: 478-3505-1-ND or 712-1322-1-ND]  56 pF 250V 5% C0G RF [Digikey: 490-4867-1-ND]  68 pF 250V RF [Digikey: 490-4868-1-ND]    0805 - 0805 Surface Mount Capacitors  220 pF 250V 2% RF Ceramic Capacitor [Digikey: 712-1398-1-ND]  1000 pF 50V 2% NP0 Ceramic Capacitor [Digikey: 478-3760-1-ND]  0.1 µF 25V 10% Ceramic Capacitor [Digikey: PCC1828TR-ND]  1.0 µF 16V 10% Ceramic Capacitor[Digikey: 490-1691-2-ND]  10.0 µF 10V 10% Ceramic Capacitor[Digikey: 709-1228-1-ND]  10.0 uF 16V 10% Ceramic Capacitor [Digikey: 478-5165-2-ND]  47 uF 6.3V 20% Ceramic Capacitor [Digikey: 587-1779-1-ND or 399-5506-1-ND]       1206 - 1206 Surface Mount Capacitors  47uF 10V 20% Ceramic Capacitor [Digikey: 490-5528-1-ND or 399-5508-1-ND or 445-6010-1-ND]  100uF 6.3V -20%, +80% Y5V Ceramic Capacitor (Digikey: 490-4512-1-ND, Mouser: 81-GRM31CF50J107ZE1L)
footprint 0402
pins: 1 P$1, 2 P$2

## CAP_CERAMIC0603
designator C?, comment Ceramic Capacitors0402 - 0402 Surface Mount Capacitors  16pF 50V 5% [Digikey: 445-4899-2-ND]  18pF 50V 5% [Digikey: 490-1281-2-ND]  22pF 50V 5% [Digikey: 490-1283-2-ND]  68pF 50V 5% [Digikey: 490-1289-2-ND]  0.1uF 10V 10% [Digikey: 490-1318-2-ND]  1.0uF 6.3V 10% [Digikey: 490-1320-2-ND]    0603 - 0603 Surface Mount Capacitors  16 pF 50V 5% [Digikey: 445-5051-2-ND]  22 pF 50V [Digikey: PCC220ACVTR-ND]  33 pF 50V 5% [Digikey: 490-1415-1-ND]  56pF 50V 5% [Digikey: 490-1421-1-ND]  220pF 50V 5% [Digikey: 445-1285-1-ND]  680 pF 50V   2200 pF 50V 5% C0G [Digikey: 445-1297-1-ND]  5600 pF 100V 5% X7R [Digikey: 478-3711-1-ND]  0.1 µF 25V 10% [Digikey: PCC2277TR-ND]  0.22 µF 16V 10% X7R [Digikey: 445-1318-1-ND]  1.0 µF 25V 10% [Digikey: 445-5146-2-ND]    0603 - RF Specific  3pF 250V +/-0.1pF RF [Digikey: 712-1347-1-ND]  18 pF 250V 5%  [Digikey: 478-3505-1-ND or 712-1322-1-ND]  56 pF 250V 5% C0G RF [Digikey: 490-4867-1-ND]  68 pF 250V RF [Digikey: 490-4868-1-ND]    0805 - 0805 Surface Mount Capacitors  220 pF 250V 2% RF Ceramic Capacitor [Digikey: 712-1398-1-ND]  1000 pF 50V 2% NP0 Ceramic Capacitor [Digikey: 478-3760-1-ND]  0.1 µF 25V 10% Ceramic Capacitor [Digikey: PCC1828TR-ND]  1.0 µF 16V 10% Ceramic Capacitor[Digikey: 490-1691-2-ND]  10.0 µF 10V 10% Ceramic Capacitor[Digikey: 709-1228-1-ND]  10.0 uF 16V 10% Ceramic Capacitor [Digikey: 478-5165-2-ND]  47 uF 6.3V 20% Ceramic Capacitor [Digikey: 587-1779-1-ND or 399-5506-1-ND]       1206 - 1206 Surface Mount Capacitors  47uF 10V 20% Ceramic Capacitor [Digikey: 490-5528-1-ND or 399-5508-1-ND or 445-6010-1-ND]  100uF 6.3V -20%, +80% Y5V Ceramic Capacitor (Digikey: 490-4512-1-ND, Mouser: 81-GRM31CF50J107ZE1L)
footprint 0603
pins: 1 P$1, 2 P$2

## CAP_CERAMIC0603MINI
designator C?, comment Ceramic Capacitors0402 - 0402 Surface Mount Capacitors  16pF 50V 5% [Digikey: 445-4899-2-ND]  18pF 50V 5% [Digikey: 490-1281-2-ND]  22pF 50V 5% [Digikey: 490-1283-2-ND]  68pF 50V 5% [Digikey: 490-1289-2-ND]  0.1uF 10V 10% [Digikey: 490-1318-2-ND]  1.0uF 6.3V 10% [Digikey: 490-1320-2-ND]    0603 - 0603 Surface Mount Capacitors  16 pF 50V 5% [Digikey: 445-5051-2-ND]  22 pF 50V [Digikey: PCC220ACVTR-ND]  33 pF 50V 5% [Digikey: 490-1415-1-ND]  56pF 50V 5% [Digikey: 490-1421-1-ND]  220pF 50V 5% [Digikey: 445-1285-1-ND]  680 pF 50V   2200 pF 50V 5% C0G [Digikey: 445-1297-1-ND]  5600 pF 100V 5% X7R [Digikey: 478-3711-1-ND]  0.1 µF 25V 10% [Digikey: PCC2277TR-ND]  0.22 µF 16V 10% X7R [Digikey: 445-1318-1-ND]  1.0 µF 25V 10% [Digikey: 445-5146-2-ND]    0603 - RF Specific  3pF 250V +/-0.1pF RF [Digikey: 712-1347-1-ND]  18 pF 250V 5%  [Digikey: 478-3505-1-ND or 712-1322-1-ND]  56 pF 250V 5% C0G RF [Digikey: 490-4867-1-ND]  68 pF 250V RF [Digikey: 490-4868-1-ND]    0805 - 0805 Surface Mount Capacitors  220 pF 250V 2% RF Ceramic Capacitor [Digikey: 712-1398-1-ND]  1000 pF 50V 2% NP0 Ceramic Capacitor [Digikey: 478-3760-1-ND]  0.1 µF 25V 10% Ceramic Capacitor [Digikey: PCC1828TR-ND]  1.0 µF 16V 10% Ceramic Capacitor[Digikey: 490-1691-2-ND]  10.0 µF 10V 10% Ceramic Capacitor[Digikey: 709-1228-1-ND]  10.0 uF 16V 10% Ceramic Capacitor [Digikey: 478-5165-2-ND]  47 uF 6.3V 20% Ceramic Capacitor [Digikey: 587-1779-1-ND or 399-5506-1-ND]       1206 - 1206 Surface Mount Capacitors  47uF 10V 20% Ceramic Capacitor [Digikey: 490-5528-1-ND or 399-5508-1-ND or 445-6010-1-ND]  100uF 6.3V -20%, +80% Y5V Ceramic Capacitor (Digikey: 490-4512-1-ND, Mouser: 81-GRM31CF50J107ZE1L)
footprint 0603-MINI
pins: 1 P$1, 2 P$2

## CAP_CERAMIC0805
designator C?, comment Ceramic Capacitors0402 - 0402 Surface Mount Capacitors  16pF 50V 5% [Digikey: 445-4899-2-ND]  18pF 50V 5% [Digikey: 490-1281-2-ND]  22pF 50V 5% [Digikey: 490-1283-2-ND]  68pF 50V 5% [Digikey: 490-1289-2-ND]  0.1uF 10V 10% [Digikey: 490-1318-2-ND]  1.0uF 6.3V 10% [Digikey: 490-1320-2-ND]    0603 - 0603 Surface Mount Capacitors  16 pF 50V 5% [Digikey: 445-5051-2-ND]  22 pF 50V [Digikey: PCC220ACVTR-ND]  33 pF 50V 5% [Digikey: 490-1415-1-ND]  56pF 50V 5% [Digikey: 490-1421-1-ND]  220pF 50V 5% [Digikey: 445-1285-1-ND]  680 pF 50V   2200 pF 50V 5% C0G [Digikey: 445-1297-1-ND]  5600 pF 100V 5% X7R [Digikey: 478-3711-1-ND]  0.1 µF 25V 10% [Digikey: PCC2277TR-ND]  0.22 µF 16V 10% X7R [Digikey: 445-1318-1-ND]  1.0 µF 25V 10% [Digikey: 445-5146-2-ND]    0603 - RF Specific  3pF 250V +/-0.1pF RF [Digikey: 712-1347-1-ND]  18 pF 250V 5%  [Digikey: 478-3505-1-ND or 712-1322-1-ND]  56 pF 250V 5% C0G RF [Digikey: 490-4867-1-ND]  68 pF 250V RF [Digikey: 490-4868-1-ND]    0805 - 0805 Surface Mount Capacitors  220 pF 250V 2% RF Ceramic Capacitor [Digikey: 712-1398-1-ND]  1000 pF 50V 2% NP0 Ceramic Capacitor [Digikey: 478-3760-1-ND]  0.1 µF 25V 10% Ceramic Capacitor [Digikey: PCC1828TR-ND]  1.0 µF 16V 10% Ceramic Capacitor[Digikey: 490-1691-2-ND]  10.0 µF 10V 10% Ceramic Capacitor[Digikey: 709-1228-1-ND]  10.0 uF 16V 10% Ceramic Capacitor [Digikey: 478-5165-2-ND]  47 uF 6.3V 20% Ceramic Capacitor [Digikey: 587-1779-1-ND or 399-5506-1-ND]       1206 - 1206 Surface Mount Capacitors  47uF 10V 20% Ceramic Capacitor [Digikey: 490-5528-1-ND or 399-5508-1-ND or 445-6010-1-ND]  100uF 6.3V -20%, +80% Y5V Ceramic Capacitor (Digikey: 490-4512-1-ND, Mouser: 81-GRM31CF50J107ZE1L)
footprint 0805
pins: 1 P$1, 2 P$2

## CAP_CERAMIC0805-NOTHERMALS
designator C?, comment Ceramic Capacitors0402 - 0402 Surface Mount Capacitors  16pF 50V 5% [Digikey: 445-4899-2-ND]  18pF 50V 5% [Digikey: 490-1281-2-ND]  22pF 50V 5% [Digikey: 490-1283-2-ND]  68pF 50V 5% [Digikey: 490-1289-2-ND]  0.1uF 10V 10% [Digikey: 490-1318-2-ND]  1.0uF 6.3V 10% [Digikey: 490-1320-2-ND]    0603 - 0603 Surface Mount Capacitors  16 pF 50V 5% [Digikey: 445-5051-2-ND]  22 pF 50V [Digikey: PCC220ACVTR-ND]  33 pF 50V 5% [Digikey: 490-1415-1-ND]  56pF 50V 5% [Digikey: 490-1421-1-ND]  220pF 50V 5% [Digikey: 445-1285-1-ND]  680 pF 50V   2200 pF 50V 5% C0G [Digikey: 445-1297-1-ND]  5600 pF 100V 5% X7R [Digikey: 478-3711-1-ND]  0.1 µF 25V 10% [Digikey: PCC2277TR-ND]  0.22 µF 16V 10% X7R [Digikey: 445-1318-1-ND]  1.0 µF 25V 10% [Digikey: 445-5146-2-ND]    0603 - RF Specific  3pF 250V +/-0.1pF RF [Digikey: 712-1347-1-ND]  18 pF 250V 5%  [Digikey: 478-3505-1-ND or 712-1322-1-ND]  56 pF 250V 5% C0G RF [Digikey: 490-4867-1-ND]  68 pF 250V RF [Digikey: 490-4868-1-ND]    0805 - 0805 Surface Mount Capacitors  220 pF 250V 2% RF Ceramic Capacitor [Digikey: 712-1398-1-ND]  1000 pF 50V 2% NP0 Ceramic Capacitor [Digikey: 478-3760-1-ND]  0.1 µF 25V 10% Ceramic Capacitor [Digikey: PCC1828TR-ND]  1.0 µF 16V 10% Ceramic Capacitor[Digikey: 490-1691-2-ND]  10.0 µF 10V 10% Ceramic Capacitor[Digikey: 709-1228-1-ND]  10.0 uF 16V 10% Ceramic Capacitor [Digikey: 478-5165-2-ND]  47 uF 6.3V 20% Ceramic Capacitor [Digikey: 587-1779-1-ND or 399-5506-1-ND]       1206 - 1206 Surface Mount Capacitors  47uF 10V 20% Ceramic Capacitor [Digikey: 490-5528-1-ND or 399-5508-1-ND or 445-6010-1-ND]  100uF 6.3V -20%, +80% Y5V Ceramic Capacitor (Digikey: 490-4512-1-ND, Mouser: 81-GRM31CF50J107ZE1L)
footprint 0805_NOTHERMALS
pins: 1 P$1, 2 P$2

## CAP_CERAMIC1206
designator C?, comment Ceramic Capacitors0402 - 0402 Surface Mount Capacitors  16pF 50V 5% [Digikey: 445-4899-2-ND]  18pF 50V 5% [Digikey: 490-1281-2-ND]  22pF 50V 5% [Digikey: 490-1283-2-ND]  68pF 50V 5% [Digikey: 490-1289-2-ND]  0.1uF 10V 10% [Digikey: 490-1318-2-ND]  1.0uF 6.3V 10% [Digikey: 490-1320-2-ND]    0603 - 0603 Surface Mount Capacitors  16 pF 50V 5% [Digikey: 445-5051-2-ND]  22 pF 50V [Digikey: PCC220ACVTR-ND]  33 pF 50V 5% [Digikey: 490-1415-1-ND]  56pF 50V 5% [Digikey: 490-1421-1-ND]  220pF 50V 5% [Digikey: 445-1285-1-ND]  680 pF 50V   2200 pF 50V 5% C0G [Digikey: 445-1297-1-ND]  5600 pF 100V 5% X7R [Digikey: 478-3711-1-ND]  0.1 µF 25V 10% [Digikey: PCC2277TR-ND]  0.22 µF 16V 10% X7R [Digikey: 445-1318-1-ND]  1.0 µF 25V 10% [Digikey: 445-5146-2-ND]    0603 - RF Specific  3pF 250V +/-0.1pF RF [Digikey: 712-1347-1-ND]  18 pF 250V 5%  [Digikey: 478-3505-1-ND or 712-1322-1-ND]  56 pF 250V 5% C0G RF [Digikey: 490-4867-1-ND]  68 pF 250V RF [Digikey: 490-4868-1-ND]    0805 - 0805 Surface Mount Capacitors  220 pF 250V 2% RF Ceramic Capacitor [Digikey: 712-1398-1-ND]  1000 pF 50V 2% NP0 Ceramic Capacitor [Digikey: 478-3760-1-ND]  0.1 µF 25V 10% Ceramic Capacitor [Digikey: PCC1828TR-ND]  1.0 µF 16V 10% Ceramic Capacitor[Digikey: 490-1691-2-ND]  10.0 µF 10V 10% Ceramic Capacitor[Digikey: 709-1228-1-ND]  10.0 uF 16V 10% Ceramic Capacitor [Digikey: 478-5165-2-ND]  47 uF 6.3V 20% Ceramic Capacitor [Digikey: 587-1779-1-ND or 399-5506-1-ND]       1206 - 1206 Surface Mount Capacitors  47uF 10V 20% Ceramic Capacitor [Digikey: 490-5528-1-ND or 399-5508-1-ND or 445-6010-1-ND]  100uF 6.3V -20%, +80% Y5V Ceramic Capacitor (Digikey: 490-4512-1-ND, Mouser: 81-GRM31CF50J107ZE1L)
footprint 1206
pins: 1 P$1, 2 P$2

## CAP_CERAMIC_0402
designator C?, comment Ceramic Capacitors0402 - 0402 Surface Mount Capacitors  16pF 50V 5% [Digikey: 445-4899-2-ND]  18pF 50V 5% [Digikey: 490-1281-2-ND]  22pF 50V 5% [Digikey: 490-1283-2-ND]  68pF 50V 5% [Digikey: 490-1289-2-ND]  0.1uF 10V 10% [Digikey: 490-1318-2-ND]  1.0uF 6.3V 10% [Digikey: 490-1320-2-ND]    0603 - 0603 Surface Mount Capacitors  16 pF 50V 5% [Digikey: 445-5051-2-ND]  22 pF 50V [Digikey: PCC220ACVTR-ND]  33 pF 50V 5% [Digikey: 490-1415-1-ND]  56pF 50V 5% [Digikey: 490-1421-1-ND]  220pF 50V 5% [Digikey: 445-1285-1-ND]  680 pF 50V   2200 pF 50V 5% C0G [Digikey: 445-1297-1-ND]  5600 pF 100V 5% X7R [Digikey: 478-3711-1-ND]  0.1 µF 25V 10% [Digikey: PCC2277TR-ND]  0.22 µF 16V 10% X7R [Digikey: 445-1318-1-ND]  1.0 µF 25V 10% [Digikey: 445-5146-2-ND]    0603 - RF Specific  3pF 250V +/-0.1pF RF [Digikey: 712-1347-1-ND]  18 pF 250V 5%  [Digikey: 478-3505-1-ND or 712-1322-1-ND]  56 pF 250V 5% C0G RF [Digikey: 490-4867-1-ND]  68 pF 250V RF [Digikey: 490-4868-1-ND]    0805 - 0805 Surface Mount Capacitors  220 pF 250V 2% RF Ceramic Capacitor [Digikey: 712-1398-1-ND]  1000 pF 50V 2% NP0 Ceramic Capacitor [Digikey: 478-3760-1-ND]  0.1 µF 25V 10% Ceramic Capacitor [Digikey: PCC1828TR-ND]  1.0 µF 16V 10% Ceramic Capacitor[Digikey: 490-1691-2-ND]  10.0 µF 10V 10% Ceramic Capacitor[Digikey: 709-1228-1-ND]  10.0 uF 16V 10% Ceramic Capacitor [Digikey: 478-5165-2-ND]  47 uF 6.3V 20% Ceramic Capacitor [Digikey: 587-1779-1-ND or 399-5506-1-ND]       1206 - 1206 Surface Mount Capacitors  47uF 10V 20% Ceramic Capacitor [Digikey: 490-5528-1-ND or 399-5508-1-ND or 445-6010-1-ND]  100uF 6.3V -20%, +80% Y5V Ceramic Capacitor (Digikey: 490-4512-1-ND, Mouser: 81-GRM31CF50J107ZE1L)
footprint _0402
pins: 1 P$1, 2 P$2

## CAP_CERAMIC_0402MP
designator C?, comment Ceramic Capacitors0402 - 0402 Surface Mount Capacitors  16pF 50V 5% [Digikey: 445-4899-2-ND]  18pF 50V 5% [Digikey: 490-1281-2-ND]  22pF 50V 5% [Digikey: 490-1283-2-ND]  68pF 50V 5% [Digikey: 490-1289-2-ND]  0.1uF 10V 10% [Digikey: 490-1318-2-ND]  1.0uF 6.3V 10% [Digikey: 490-1320-2-ND]    0603 - 0603 Surface Mount Capacitors  16 pF 50V 5% [Digikey: 445-5051-2-ND]  22 pF 50V [Digikey: PCC220ACVTR-ND]  33 pF 50V 5% [Digikey: 490-1415-1-ND]  56pF 50V 5% [Digikey: 490-1421-1-ND]  220pF 50V 5% [Digikey: 445-1285-1-ND]  680 pF 50V   2200 pF 50V 5% C0G [Digikey: 445-1297-1-ND]  5600 pF 100V 5% X7R [Digikey: 478-3711-1-ND]  0.1 µF 25V 10% [Digikey: PCC2277TR-ND]  0.22 µF 16V 10% X7R [Digikey: 445-1318-1-ND]  1.0 µF 25V 10% [Digikey: 445-5146-2-ND]    0603 - RF Specific  3pF 250V +/-0.1pF RF [Digikey: 712-1347-1-ND]  18 pF 250V 5%  [Digikey: 478-3505-1-ND or 712-1322-1-ND]  56 pF 250V 5% C0G RF [Digikey: 490-4867-1-ND]  68 pF 250V RF [Digikey: 490-4868-1-ND]    0805 - 0805 Surface Mount Capacitors  220 pF 250V 2% RF Ceramic Capacitor [Digikey: 712-1398-1-ND]  1000 pF 50V 2% NP0 Ceramic Capacitor [Digikey: 478-3760-1-ND]  0.1 µF 25V 10% Ceramic Capacitor [Digikey: PCC1828TR-ND]  1.0 µF 16V 10% Ceramic Capacitor[Digikey: 490-1691-2-ND]  10.0 µF 10V 10% Ceramic Capacitor[Digikey: 709-1228-1-ND]  10.0 uF 16V 10% Ceramic Capacitor [Digikey: 478-5165-2-ND]  47 uF 6.3V 20% Ceramic Capacitor [Digikey: 587-1779-1-ND or 399-5506-1-ND]       1206 - 1206 Surface Mount Capacitors  47uF 10V 20% Ceramic Capacitor [Digikey: 490-5528-1-ND or 399-5508-1-ND or 445-6010-1-ND]  100uF 6.3V -20%, +80% Y5V Ceramic Capacitor (Digikey: 490-4512-1-ND, Mouser: 81-GRM31CF50J107ZE1L)
footprint _0402MP
pins: 1 P$1, 2 P$2

## CAP_CERAMIC_0603
designator C?, comment Ceramic Capacitors0402 - 0402 Surface Mount Capacitors  16pF 50V 5% [Digikey: 445-4899-2-ND]  18pF 50V 5% [Digikey: 490-1281-2-ND]  22pF 50V 5% [Digikey: 490-1283-2-ND]  68pF 50V 5% [Digikey: 490-1289-2-ND]  0.1uF 10V 10% [Digikey: 490-1318-2-ND]  1.0uF 6.3V 10% [Digikey: 490-1320-2-ND]    0603 - 0603 Surface Mount Capacitors  16 pF 50V 5% [Digikey: 445-5051-2-ND]  22 pF 50V [Digikey: PCC220ACVTR-ND]  33 pF 50V 5% [Digikey: 490-1415-1-ND]  56pF 50V 5% [Digikey: 490-1421-1-ND]  220pF 50V 5% [Digikey: 445-1285-1-ND]  680 pF 50V   2200 pF 50V 5% C0G [Digikey: 445-1297-1-ND]  5600 pF 100V 5% X7R [Digikey: 478-3711-1-ND]  0.1 µF 25V 10% [Digikey: PCC2277TR-ND]  0.22 µF 16V 10% X7R [Digikey: 445-1318-1-ND]  1.0 µF 25V 10% [Digikey: 445-5146-2-ND]    0603 - RF Specific  3pF 250V +/-0.1pF RF [Digikey: 712-1347-1-ND]  18 pF 250V 5%  [Digikey: 478-3505-1-ND or 712-1322-1-ND]  56 pF 250V 5% C0G RF [Digikey: 490-4867-1-ND]  68 pF 250V RF [Digikey: 490-4868-1-ND]    0805 - 0805 Surface Mount Capacitors  220 pF 250V 2% RF Ceramic Capacitor [Digikey: 712-1398-1-ND]  1000 pF 50V 2% NP0 Ceramic Capacitor [Digikey: 478-3760-1-ND]  0.1 µF 25V 10% Ceramic Capacitor [Digikey: PCC1828TR-ND]  1.0 µF 16V 10% Ceramic Capacitor[Digikey: 490-1691-2-ND]  10.0 µF 10V 10% Ceramic Capacitor[Digikey: 709-1228-1-ND]  10.0 uF 16V 10% Ceramic Capacitor [Digikey: 478-5165-2-ND]  47 uF 6.3V 20% Ceramic Capacitor [Digikey: 587-1779-1-ND or 399-5506-1-ND]       1206 - 1206 Surface Mount Capacitors  47uF 10V 20% Ceramic Capacitor [Digikey: 490-5528-1-ND or 399-5508-1-ND or 445-6010-1-ND]  100uF 6.3V -20%, +80% Y5V Ceramic Capacitor (Digikey: 490-4512-1-ND, Mouser: 81-GRM31CF50J107ZE1L)
footprint _0603
pins: 1 P$1, 2 P$2

## CAP_CERAMIC_0603MP
designator C?, comment Ceramic Capacitors0402 - 0402 Surface Mount Capacitors  16pF 50V 5% [Digikey: 445-4899-2-ND]  18pF 50V 5% [Digikey: 490-1281-2-ND]  22pF 50V 5% [Digikey: 490-1283-2-ND]  68pF 50V 5% [Digikey: 490-1289-2-ND]  0.1uF 10V 10% [Digikey: 490-1318-2-ND]  1.0uF 6.3V 10% [Digikey: 490-1320-2-ND]    0603 - 0603 Surface Mount Capacitors  16 pF 50V 5% [Digikey: 445-5051-2-ND]  22 pF 50V [Digikey: PCC220ACVTR-ND]  33 pF 50V 5% [Digikey: 490-1415-1-ND]  56pF 50V 5% [Digikey: 490-1421-1-ND]  220pF 50V 5% [Digikey: 445-1285-1-ND]  680 pF 50V   2200 pF 50V 5% C0G [Digikey: 445-1297-1-ND]  5600 pF 100V 5% X7R [Digikey: 478-3711-1-ND]  0.1 µF 25V 10% [Digikey: PCC2277TR-ND]  0.22 µF 16V 10% X7R [Digikey: 445-1318-1-ND]  1.0 µF 25V 10% [Digikey: 445-5146-2-ND]    0603 - RF Specific  3pF 250V +/-0.1pF RF [Digikey: 712-1347-1-ND]  18 pF 250V 5%  [Digikey: 478-3505-1-ND or 712-1322-1-ND]  56 pF 250V 5% C0G RF [Digikey: 490-4867-1-ND]  68 pF 250V RF [Digikey: 490-4868-1-ND]    0805 - 0805 Surface Mount Capacitors  220 pF 250V 2% RF Ceramic Capacitor [Digikey: 712-1398-1-ND]  1000 pF 50V 2% NP0 Ceramic Capacitor [Digikey: 478-3760-1-ND]  0.1 µF 25V 10% Ceramic Capacitor [Digikey: PCC1828TR-ND]  1.0 µF 16V 10% Ceramic Capacitor[Digikey: 490-1691-2-ND]  10.0 µF 10V 10% Ceramic Capacitor[Digikey: 709-1228-1-ND]  10.0 uF 16V 10% Ceramic Capacitor [Digikey: 478-5165-2-ND]  47 uF 6.3V 20% Ceramic Capacitor [Digikey: 587-1779-1-ND or 399-5506-1-ND]       1206 - 1206 Surface Mount Capacitors  47uF 10V 20% Ceramic Capacitor [Digikey: 490-5528-1-ND or 399-5508-1-ND or 445-6010-1-ND]  100uF 6.3V -20%, +80% Y5V Ceramic Capacitor (Digikey: 490-4512-1-ND, Mouser: 81-GRM31CF50J107ZE1L)
footprint _0603MP
pins: 1 P$1, 2 P$2

## CAP_CERAMIC_0805
designator C?, comment Ceramic Capacitors0402 - 0402 Surface Mount Capacitors  16pF 50V 5% [Digikey: 445-4899-2-ND]  18pF 50V 5% [Digikey: 490-1281-2-ND]  22pF 50V 5% [Digikey: 490-1283-2-ND]  68pF 50V 5% [Digikey: 490-1289-2-ND]  0.1uF 10V 10% [Digikey: 490-1318-2-ND]  1.0uF 6.3V 10% [Digikey: 490-1320-2-ND]    0603 - 0603 Surface Mount Capacitors  16 pF 50V 5% [Digikey: 445-5051-2-ND]  22 pF 50V [Digikey: PCC220ACVTR-ND]  33 pF 50V 5% [Digikey: 490-1415-1-ND]  56pF 50V 5% [Digikey: 490-1421-1-ND]  220pF 50V 5% [Digikey: 445-1285-1-ND]  680 pF 50V   2200 pF 50V 5% C0G [Digikey: 445-1297-1-ND]  5600 pF 100V 5% X7R [Digikey: 478-3711-1-ND]  0.1 µF 25V 10% [Digikey: PCC2277TR-ND]  0.22 µF 16V 10% X7R [Digikey: 445-1318-1-ND]  1.0 µF 25V 10% [Digikey: 445-5146-2-ND]    0603 - RF Specific  3pF 250V +/-0.1pF RF [Digikey: 712-1347-1-ND]  18 pF 250V 5%  [Digikey: 478-3505-1-ND or 712-1322-1-ND]  56 pF 250V 5% C0G RF [Digikey: 490-4867-1-ND]  68 pF 250V RF [Digikey: 490-4868-1-ND]    0805 - 0805 Surface Mount Capacitors  220 pF 250V 2% RF Ceramic Capacitor [Digikey: 712-1398-1-ND]  1000 pF 50V 2% NP0 Ceramic Capacitor [Digikey: 478-3760-1-ND]  0.1 µF 25V 10% Ceramic Capacitor [Digikey: PCC1828TR-ND]  1.0 µF 16V 10% Ceramic Capacitor[Digikey: 490-1691-2-ND]  10.0 µF 10V 10% Ceramic Capacitor[Digikey: 709-1228-1-ND]  10.0 uF 16V 10% Ceramic Capacitor [Digikey: 478-5165-2-ND]  47 uF 6.3V 20% Ceramic Capacitor [Digikey: 587-1779-1-ND or 399-5506-1-ND]       1206 - 1206 Surface Mount Capacitors  47uF 10V 20% Ceramic Capacitor [Digikey: 490-5528-1-ND or 399-5508-1-ND or 445-6010-1-ND]  100uF 6.3V -20%, +80% Y5V Ceramic Capacitor (Digikey: 490-4512-1-ND, Mouser: 81-GRM31CF50J107ZE1L)
footprint _0805
pins: 1 P$1, 2 P$2

## CAP_CERAMIC_0805MP
designator C?, comment Ceramic Capacitors0402 - 0402 Surface Mount Capacitors  16pF 50V 5% [Digikey: 445-4899-2-ND]  18pF 50V 5% [Digikey: 490-1281-2-ND]  22pF 50V 5% [Digikey: 490-1283-2-ND]  68pF 50V 5% [Digikey: 490-1289-2-ND]  0.1uF 10V 10% [Digikey: 490-1318-2-ND]  1.0uF 6.3V 10% [Digikey: 490-1320-2-ND]    0603 - 0603 Surface Mount Capacitors  16 pF 50V 5% [Digikey: 445-5051-2-ND]  22 pF 50V [Digikey: PCC220ACVTR-ND]  33 pF 50V 5% [Digikey: 490-1415-1-ND]  56pF 50V 5% [Digikey: 490-1421-1-ND]  220pF 50V 5% [Digikey: 445-1285-1-ND]  680 pF 50V   2200 pF 50V 5% C0G [Digikey: 445-1297-1-ND]  5600 pF 100V 5% X7R [Digikey: 478-3711-1-ND]  0.1 µF 25V 10% [Digikey: PCC2277TR-ND]  0.22 µF 16V 10% X7R [Digikey: 445-1318-1-ND]  1.0 µF 25V 10% [Digikey: 445-5146-2-ND]    0603 - RF Specific  3pF 250V +/-0.1pF RF [Digikey: 712-1347-1-ND]  18 pF 250V 5%  [Digikey: 478-3505-1-ND or 712-1322-1-ND]  56 pF 250V 5% C0G RF [Digikey: 490-4867-1-ND]  68 pF 250V RF [Digikey: 490-4868-1-ND]    0805 - 0805 Surface Mount Capacitors  220 pF 250V 2% RF Ceramic Capacitor [Digikey: 712-1398-1-ND]  1000 pF 50V 2% NP0 Ceramic Capacitor [Digikey: 478-3760-1-ND]  0.1 µF 25V 10% Ceramic Capacitor [Digikey: PCC1828TR-ND]  1.0 µF 16V 10% Ceramic Capacitor[Digikey: 490-1691-2-ND]  10.0 µF 10V 10% Ceramic Capacitor[Digikey: 709-1228-1-ND]  10.0 uF 16V 10% Ceramic Capacitor [Digikey: 478-5165-2-ND]  47 uF 6.3V 20% Ceramic Capacitor [Digikey: 587-1779-1-ND or 399-5506-1-ND]       1206 - 1206 Surface Mount Capacitors  47uF 10V 20% Ceramic Capacitor [Digikey: 490-5528-1-ND or 399-5508-1-ND or 445-6010-1-ND]  100uF 6.3V -20%, +80% Y5V Ceramic Capacitor (Digikey: 490-4512-1-ND, Mouser: 81-GRM31CF50J107ZE1L)
footprint _0805MP
pins: 1 P$1, 2 P$2

## CAP_ELECTROLYTICPANASONIC_C
designator C?, comment Electrolytic Capacitors   SMTPANASONIC_C - Size C Panasonic Electrolytic Aluminum Capacitor  47µF 16V 20% Electrolytic Capacitor [Digikey: PCE3890TR-ND]    PANASONIC_D - Size D Panasonic Electrolytic Aluminum Capacitor  100µF 25V 20% Electrolytic Capacitor [Digikey: PCE3898TR-ND]       PTH3.5 mm grid, 8 mm diameter ...    3.5 mm grid, 10 mm diameter ...
footprint PANASONIC_C
pins: +, -

## CAP_ELECTROLYTICPANASONIC_D
designator C?, comment Electrolytic Capacitors   SMTPANASONIC_C - Size C Panasonic Electrolytic Aluminum Capacitor  47µF 16V 20% Electrolytic Capacitor [Digikey: PCE3890TR-ND]    PANASONIC_D - Size D Panasonic Electrolytic Aluminum Capacitor  100µF 25V 20% Electrolytic Capacitor [Digikey: PCE3898TR-ND]       PTH3.5 mm grid, 8 mm diameter ...    3.5 mm grid, 10 mm diameter ...
footprint PANASONIC_D
pins: +, -

## CAP_ELECTROLYTICPTH_3.5MMGRID_8MMDIA
designator C?, comment Electrolytic Capacitors   SMTPANASONIC_C - Size C Panasonic Electrolytic Aluminum Capacitor  47µF 16V 20% Electrolytic Capacitor [Digikey: PCE3890TR-ND]    PANASONIC_D - Size D Panasonic Electrolytic Aluminum Capacitor  100µF 25V 20% Electrolytic Capacitor [Digikey: PCE3898TR-ND]       PTH3.5 mm grid, 8 mm diameter ...    3.5 mm grid, 10 mm diameter ...
footprint CELEC_3.5MM_8MM
pins: +, -

## CAP_ELECTROLYTICPTH_3.5MMGRID_10MMDIA
designator C?, comment Electrolytic Capacitors   SMTPANASONIC_C - Size C Panasonic Electrolytic Aluminum Capacitor  47µF 16V 20% Electrolytic Capacitor [Digikey: PCE3890TR-ND]    PANASONIC_D - Size D Panasonic Electrolytic Aluminum Capacitor  100µF 25V 20% Electrolytic Capacitor [Digikey: PCE3898TR-ND]       PTH3.5 mm grid, 8 mm diameter ...    3.5 mm grid, 10 mm diameter ...
footprint CELEC_3.5MM_10MM
pins: +, -

## CAP_TANTALUMA/3216_REFLOW
designator C?, comment Tantalum Capacitors   Wave footprints have larger pads and are meant to be used for hand soldering. Reflow footprints are optimised for solder paste and a reflow oven.EIA3216-18/A-[R/W] - Size A / 3216-18 / 1206 footprint  4.7µF 25V 10% Tantalum Capacitor  10µF 16V 10% Tantalum Capacitor [Digikey: 495-2236-2-ND]    EIA3528-21/B-[R/W] - Size B / 3528-21  47µF 10V 10% Tantalum Capactior [Digikey: 495-2216-1-ND]    EIA6032-28/C-[R/W] - Size C / 6032-28  10µF 35V 20% Tantalum Capacitor [Digikey: 495-2285-1-ND]  100µF 16V 10% Tantalum Capactior [Digikey: 399-5214-1-ND]
footprint EIA3216-18/A-R
pins: +, -

## CAP_TANTALUMA/3216_WAVE
designator C?, comment Tantalum Capacitors   Wave footprints have larger pads and are meant to be used for hand soldering. Reflow footprints are optimised for solder paste and a reflow oven.EIA3216-18/A-[R/W] - Size A / 3216-18 / 1206 footprint  4.7µF 25V 10% Tantalum Capacitor  10µF 16V 10% Tantalum Capacitor [Digikey: 495-2236-2-ND]    EIA3528-21/B-[R/W] - Size B / 3528-21  47µF 10V 10% Tantalum Capactior [Digikey: 495-2216-1-ND]    EIA6032-28/C-[R/W] - Size C / 6032-28  10µF 35V 20% Tantalum Capacitor [Digikey: 495-2285-1-ND]  100µF 16V 10% Tantalum Capactior [Digikey: 399-5214-1-ND]
footprint EIA3216-18/A-W
pins: +, -

## CAP_TANTALUMB/3528_REFLOW
designator C?, comment Tantalum Capacitors   Wave footprints have larger pads and are meant to be used for hand soldering. Reflow footprints are optimised for solder paste and a reflow oven.EIA3216-18/A-[R/W] - Size A / 3216-18 / 1206 footprint  4.7µF 25V 10% Tantalum Capacitor  10µF 16V 10% Tantalum Capacitor [Digikey: 495-2236-2-ND]    EIA3528-21/B-[R/W] - Size B / 3528-21  47µF 10V 10% Tantalum Capactior [Digikey: 495-2216-1-ND]    EIA6032-28/C-[R/W] - Size C / 6032-28  10µF 35V 20% Tantalum Capacitor [Digikey: 495-2285-1-ND]  100µF 16V 10% Tantalum Capactior [Digikey: 399-5214-1-ND]
footprint EIA3528-21/B-R
pins: +, -

## CAP_TANTALUMB/3528_WAVE
designator C?, comment Tantalum Capacitors   Wave footprints have larger pads and are meant to be used for hand soldering. Reflow footprints are optimised for solder paste and a reflow oven.EIA3216-18/A-[R/W] - Size A / 3216-18 / 1206 footprint  4.7µF 25V 10% Tantalum Capacitor  10µF 16V 10% Tantalum Capacitor [Digikey: 495-2236-2-ND]    EIA3528-21/B-[R/W] - Size B / 3528-21  47µF 10V 10% Tantalum Capactior [Digikey: 495-2216-1-ND]    EIA6032-28/C-[R/W] - Size C / 6032-28  10µF 35V 20% Tantalum Capacitor [Digikey: 495-2285-1-ND]  100µF 16V 10% Tantalum Capactior [Digikey: 399-5214-1-ND]
footprint EIA3528-21/B-W
pins: +, -

## CAP_TANTALUMC/6032_REFLOW
designator C?, comment Tantalum Capacitors   Wave footprints have larger pads and are meant to be used for hand soldering. Reflow footprints are optimised for solder paste and a reflow oven.EIA3216-18/A-[R/W] - Size A / 3216-18 / 1206 footprint  4.7µF 25V 10% Tantalum Capacitor  10µF 16V 10% Tantalum Capacitor [Digikey: 495-2236-2-ND]    EIA3528-21/B-[R/W] - Size B / 3528-21  47µF 10V 10% Tantalum Capactior [Digikey: 495-2216-1-ND]    EIA6032-28/C-[R/W] - Size C / 6032-28  10µF 35V 20% Tantalum Capacitor [Digikey: 495-2285-1-ND]  100µF 16V 10% Tantalum Capactior [Digikey: 399-5214-1-ND]
footprint EIA6032-28/C-R
pins: +, -

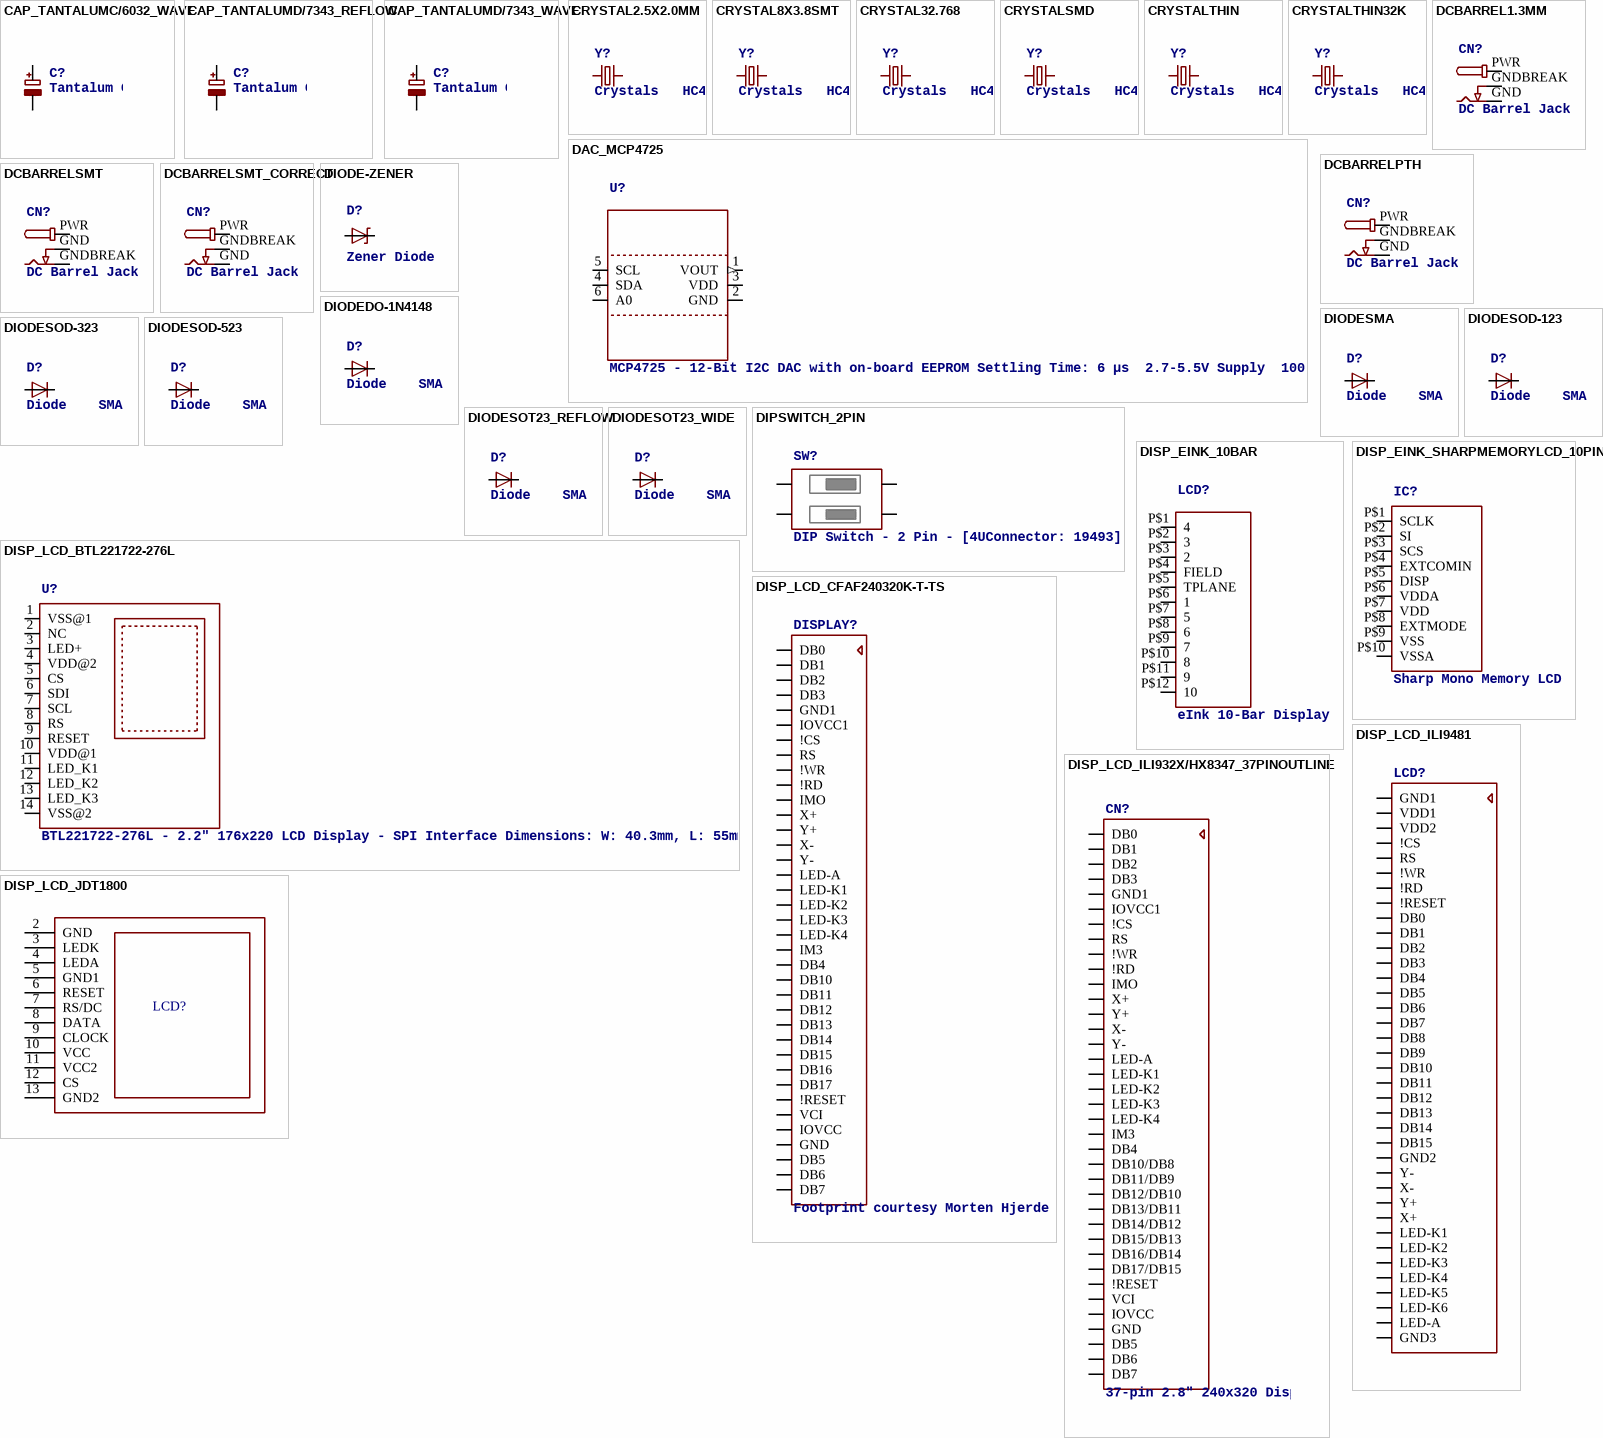
[diagram p7: symbols CAP_TANTALUMC/6032_WAVE to DISP_LCD_JDT1800]